# Altium integrated library Xilinx PLD XC9500XL.IntLib: 169 symbols (part 7 of 11)
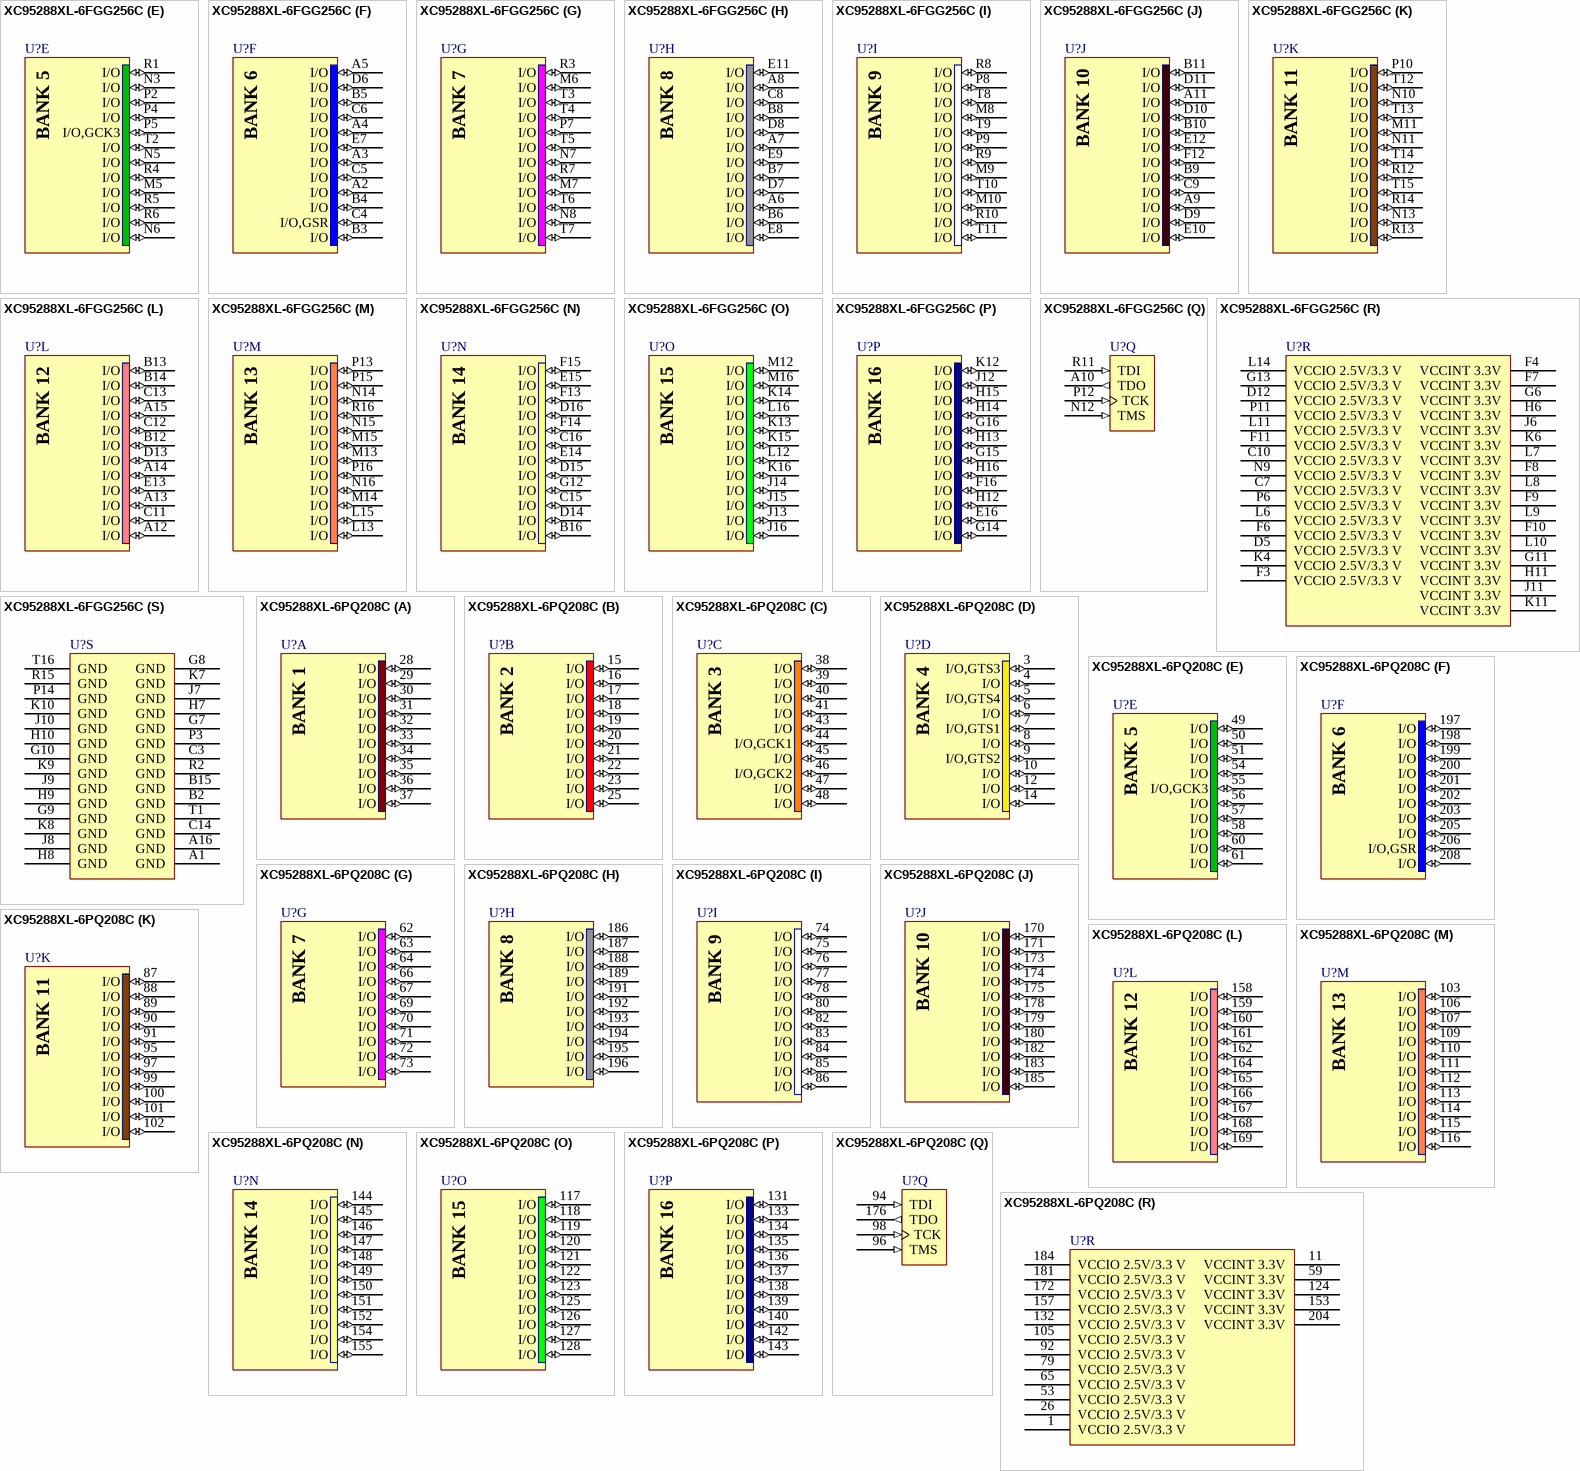
[diagram p64: symbols XC95288XL-6FGG256C to XC95288XL-6PQ208C]

## XC95288XL-6FGG256C
designator U?
FastFLASH XC900XL, 3.3V High-Performance 288 Macrocell CPLD, 192 User I/Os, 256-Ball FBGA, Speed Grade 6, Commercial Grade, Pb-Free; DatasheetVersion: ver2.1, Apr-2007; PackageVersion: ver1.2.1, Apr-2005; PackageReference: FGG256; PackageDescription: 256-Ball Fine Pitch Ball Grid Array (FGG256) - Pb-Free; Code_JEDEC: MO-151-AAF-1; Code_IPC: BGA100P16X16-256; ComponentLink1Description: Manufacturer URL; ComponentLink1URL: http://www.xilinx.com/; ComponentLink2Description: XC95288XL Datasheet; ComponentLink2URL: http://www.xilinx.com/support/documentation/data_sheets/ds055.pdf; ComponentLink3Description: FGG256 Package Drawing; ComponentLink3URL: http://www.xilinx.com/support/documentation/package_specs/fg256.pdf; ComponentLink4Description: XC9500XL Documents; ComponentLink4URL: http://www.xilinx.com/support/documentation/xc9500xl.htm
footprint FGG256 (BGA, 256-Leads, Body 17x17mm, Pitch 1mm)
part A pins: H1 I/O (io), H5 I/O (io), J1 I/O (io), J2 I/O (io), J3 I/O (io), J4 I/O (io), J5 I/O (io), K1 I/O (io), K2 I/O (io), K3 I/O (io), K5 I/O (io), L1 I/O (io)
part B pins: D1 I/O (io), E1 I/O (io), F1 I/O (io), F5 I/O (io), G1 I/O (io), G2 I/O (io), G3 I/O (io), G4 I/O (io), G5 I/O (io), H2 I/O (io), H3 I/O (io), H4 I/O (io)
part C pins: L2 I/O (io), L3 I/O (io), L4 I/O (io), L5 I/O (io), M1 I/O (io), M2 I/O,GCK1 (io), M3 I/O,GCK2 (io), M4 I/O (io), N1 I/O (io), N2 I/O (io), N4 I/O (io), P1 I/O (io)
part D pins: B1 I/O (io), C1 I/O (io), C2 I/O (io), D2 I/O (io), D3 I/O,GTS3 (io), D4 I/O,GTS1 (io), E2 I/O (io), E3 I/O,GTS4 (io), E4 I/O (io), E5 I/O,GTS2 (io), E6 I/O (io), F2 I/O (io)
part E pins: M5 I/O (io), N3 I/O (io), N5 I/O (io), N6 I/O (io), P2 I/O (io), P4 I/O (io), P5 I/O,GCK3 (io), R1 I/O (io), R4 I/O (io), R5 I/O (io), R6 I/O (io), T2 I/O (io)
part F pins: A2 I/O (io), A3 I/O (io), A4 I/O (io), A5 I/O (io), B3 I/O (io), B4 I/O (io), B5 I/O (io), C4 I/O,GSR (io), C5 I/O (io), C6 I/O (io), D6 I/O (io), E7 I/O (io)
part G pins: M6 I/O (io), M7 I/O (io), N7 I/O (io), N8 I/O (io), P7 I/O (io), R3 I/O (io), R7 I/O (io), T3 I/O (io), T4 I/O (io), T5 I/O (io), T6 I/O (io), T7 I/O (io)
part H pins: A6 I/O (io), A7 I/O (io), A8 I/O (io), B6 I/O (io), B7 I/O (io), B8 I/O (io), C8 I/O (io), D7 I/O (io), D8 I/O (io), E8 I/O (io), E9 I/O (io), E11 I/O (io)
part I pins: M8 I/O (io), M9 I/O (io), M10 I/O (io), P8 I/O (io), P9 I/O (io), R8 I/O (io), R9 I/O (io), R10 I/O (io), T8 I/O (io), T9 I/O (io), T10 I/O (io), T11 I/O (io)
part J pins: A9 I/O (io), A11 I/O (io), B9 I/O (io), B10 I/O (io), B11 I/O (io), C9 I/O (io), D9 I/O (io), D10 I/O (io), D11 I/O (io), E10 I/O (io), E12 I/O (io), F12 I/O (io)
part K pins: M11 I/O (io), N10 I/O (io), N11 I/O (io), N13 I/O (io), P10 I/O (io), R12 I/O (io), R13 I/O (io), R14 I/O (io), T12 I/O (io), T13 I/O (io), T14 I/O (io), T15 I/O (io)
part L pins: A12 I/O (io), A13 I/O (io), A14 I/O (io), A15 I/O (io), B12 I/O (io), B13 I/O (io), B14 I/O (io), C11 I/O (io), C12 I/O (io), C13 I/O (io), D13 I/O (io), E13 I/O (io)
part M pins: L13 I/O (io), L15 I/O (io), M13 I/O (io), M14 I/O (io), M15 I/O (io), N14 I/O (io), N15 I/O (io), N16 I/O (io), P13 I/O (io), P15 I/O (io), P16 I/O (io), R16 I/O (io)
part N pins: B16 I/O (io), C15 I/O (io), C16 I/O (io), D14 I/O (io), D15 I/O (io), D16 I/O (io), E14 I/O (io), E15 I/O (io), F13 I/O (io), F14 I/O (io), F15 I/O (io), G12 I/O (io)
part O pins: J13 I/O (io), J14 I/O (io), J15 I/O (io), J16 I/O (io), K13 I/O (io), K14 I/O (io), K15 I/O (io), K16 I/O (io), L12 I/O (io), L16 I/O (io), M12 I/O (io), M16 I/O (io)
part P pins: E16 I/O (io), F16 I/O (io), G14 I/O (io), G15 I/O (io), G16 I/O (io), H12 I/O (io), H13 I/O (io), H14 I/O (io), H15 I/O (io), H16 I/O (io), J12 I/O (io), K12 I/O (io)
part Q pins: A10 TDO (out), N12 TMS (in), P12 TCK (in), R11 TDI (in)
part R pins: C7 VCCIO 2.5V/3.3 V (power), C10 VCCIO 2.5V/3.3 V (power), D5 VCCIO 2.5V/3.3 V (power), D12 VCCIO 2.5V/3.3 V (power), F3 VCCIO 2.5V/3.3 V (power), F4 VCCINT 3.3V (power), F6 VCCIO 2.5V/3.3 V (power), F7 VCCINT 3.3V (power), F8 VCCINT 3.3V (power), F9 VCCINT 3.3V (power), F10 VCCINT 3.3V (power), F11 VCCIO 2.5V/3.3 V (power), G6 VCCINT 3.3V (power), G11 VCCINT 3.3V (power), G13 VCCIO 2.5V/3.3 V (power), H6 VCCINT 3.3V (power), H11 VCCINT 3.3V (power), J6 VCCINT 3.3V (power), J11 VCCINT 3.3V (power), K4 VCCIO 2.5V/3.3 V (power), K6 VCCINT 3.3V (power), K11 VCCINT 3.3V (power), L6 VCCIO 2.5V/3.3 V (power), L7 VCCINT 3.3V (power), L8 VCCINT 3.3V (power), L9 VCCINT 3.3V (power), L10 VCCINT 3.3V (power), L11 VCCIO 2.5V/3.3 V (power), L14 VCCIO 2.5V/3.3 V (power), N9 VCCIO 2.5V/3.3 V (power), P6 VCCIO 2.5V/3.3 V (power), P11 VCCIO 2.5V/3.3 V (power)
part S pins: A1 GND (power), A16 GND (power), B2 GND (power), B15 GND (power), C3 GND (power), C14 GND (power), G7 GND (power), G8 GND (power), G9 GND (power), G10 GND (power), H7 GND (power), H8 GND (power), H9 GND (power), H10 GND (power), J7 GND (power), J8 GND (power), J9 GND (power), J10 GND (power), K7 GND (power), K8 GND (power), K9 GND (power), K10 GND (power), P3 GND (power), P14 GND (power), R2 GND (power), R15 GND (power), T1 GND (power), T16 GND (power)
part A text: BANK 1
part B text: BANK 2
part C text: BANK 3
part D text: BANK 4
part E text: BANK 5
part F text: BANK 6
part G text: BANK 7
part H text: BANK 8
part I text: BANK 9
part J text: BANK 10
part K text: BANK 11
part L text: BANK 12
part M text: BANK 13
part N text: BANK 14
part O text: BANK 15
part P text: BANK 16

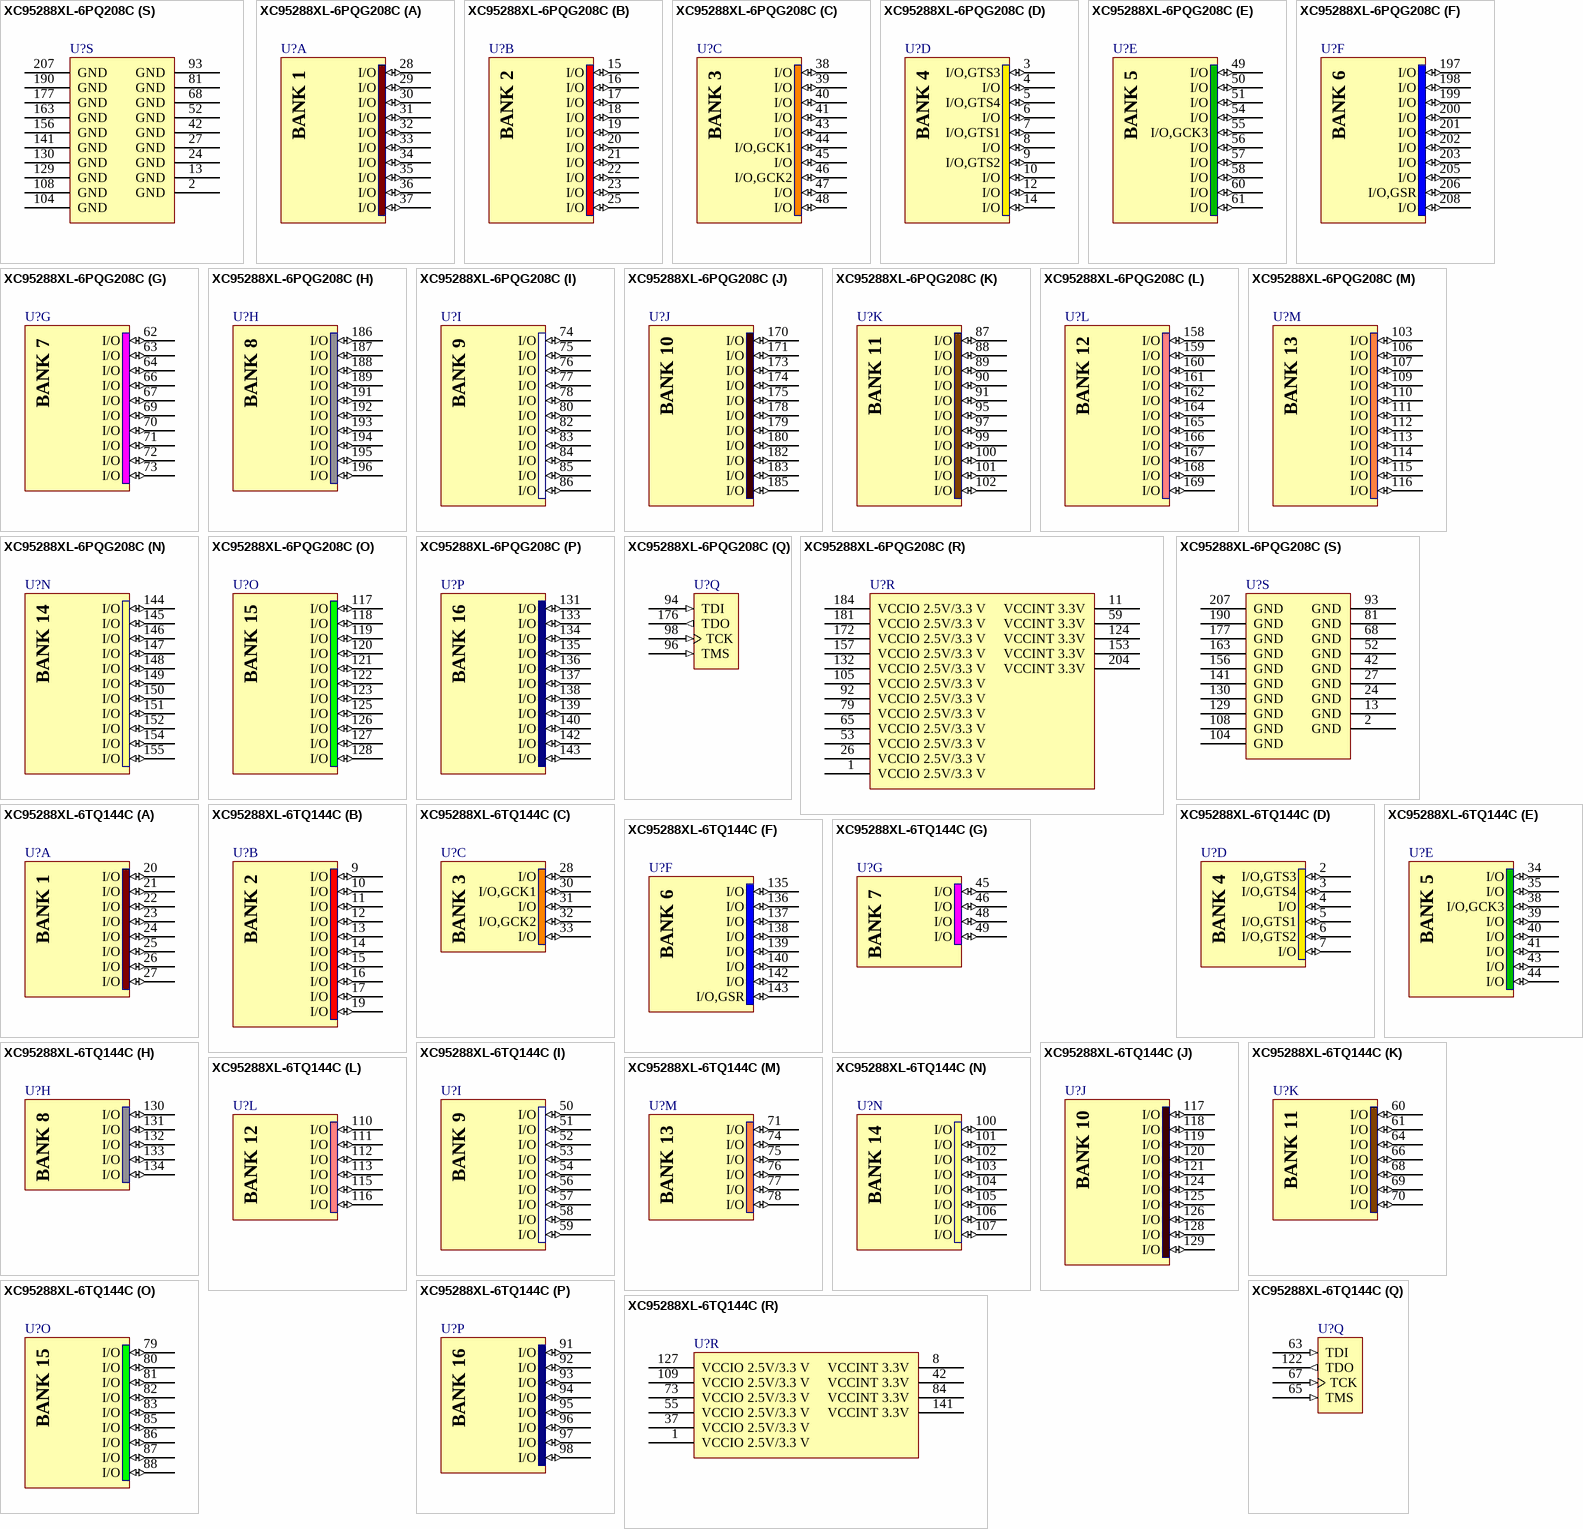
[diagram p34: symbols XC95288XL-6PQ208C to XC95288XL-6TQ144C]

## XC95288XL-6PQ208C
designator U?
FastFLASH XC900XL, 3.3V High-Performance 288 Macrocell CPLD, 168 User I/Os, 208-Pin PQFP, Speed Grade 6, Commercial Grade; DatasheetVersion: ver2.1, Apr-2007; PackageVersion: ver1.2, Jun-2004; PackageReference: PQ208; PackageDescription: 208-Pin Plastic Quad Flat Pack (PQ208); Code_JEDEC: MS-029-FA-1; ComponentLink1Description: Manufacturer URL; ComponentLink1URL: http://www.xilinx.com/; ComponentLink2Description: XC95288XL Datasheet; ComponentLink2URL: http://www.xilinx.com/support/documentation/data_sheets/ds055.pdf; ComponentLink3Description: PQ208 Package Drawing; ComponentLink3URL: http://www.xilinx.com/support/documentation/package_specs/pq208.pdf; ComponentLink4Description: XC9500XL Documents; ComponentLink4URL: http://www.xilinx.com/support/documentation/xc9500xl.htm
footprint PQ208_N (Shrink QFP, 208-Leads, Body 28x28mm, Pitch 0.5mm, IPC Medium Density)
footprint PQ208_L (Shrink QFP, 208-Leads, Body 28x28mm, Pitch 0.5mm, IPC High Density)
footprint PQ208_M (Shrink QFP, 208-Leads, Body 28x28mm, Pitch 0.5mm, IPC Low Density)
part A pins: 28 I/O (io), 29 I/O (io), 30 I/O (io), 31 I/O (io), 32 I/O (io), 33 I/O (io), 34 I/O (io), 35 I/O (io), 36 I/O (io), 37 I/O (io)
part B pins: 15 I/O (io), 16 I/O (io), 17 I/O (io), 18 I/O (io), 19 I/O (io), 20 I/O (io), 21 I/O (io), 22 I/O (io), 23 I/O (io), 25 I/O (io)
part C pins: 38 I/O (io), 39 I/O (io), 40 I/O (io), 41 I/O (io), 43 I/O (io), 44 I/O,GCK1 (io), 45 I/O (io), 46 I/O,GCK2 (io), 47 I/O (io), 48 I/O (io)
part D pins: 3 I/O,GTS3 (io), 4 I/O (io), 5 I/O,GTS4 (io), 6 I/O (io), 7 I/O,GTS1 (io), 8 I/O (io), 9 I/O,GTS2 (io), 10 I/O (io), 12 I/O (io), 14 I/O (io)
part E pins: 49 I/O (io), 50 I/O (io), 51 I/O (io), 54 I/O (io), 55 I/O,GCK3 (io), 56 I/O (io), 57 I/O (io), 58 I/O (io), 60 I/O (io), 61 I/O (io)
part F pins: 197 I/O (io), 198 I/O (io), 199 I/O (io), 200 I/O (io), 201 I/O (io), 202 I/O (io), 203 I/O (io), 205 I/O (io), 206 I/O,GSR (io), 208 I/O (io)
part G pins: 62 I/O (io), 63 I/O (io), 64 I/O (io), 66 I/O (io), 67 I/O (io), 69 I/O (io), 70 I/O (io), 71 I/O (io), 72 I/O (io), 73 I/O (io)
part H pins: 186 I/O (io), 187 I/O (io), 188 I/O (io), 189 I/O (io), 191 I/O (io), 192 I/O (io), 193 I/O (io), 194 I/O (io), 195 I/O (io), 196 I/O (io)
part I pins: 74 I/O (io), 75 I/O (io), 76 I/O (io), 77 I/O (io), 78 I/O (io), 80 I/O (io), 82 I/O (io), 83 I/O (io), 84 I/O (io), 85 I/O (io), 86 I/O (io)
part J pins: 170 I/O (io), 171 I/O (io), 173 I/O (io), 174 I/O (io), 175 I/O (io), 178 I/O (io), 179 I/O (io), 180 I/O (io), 182 I/O (io), 183 I/O (io), 185 I/O (io)
part K pins: 87 I/O (io), 88 I/O (io), 89 I/O (io), 90 I/O (io), 91 I/O (io), 95 I/O (io), 97 I/O (io), 99 I/O (io), 100 I/O (io), 101 I/O (io), 102 I/O (io)
part L pins: 158 I/O (io), 159 I/O (io), 160 I/O (io), 161 I/O (io), 162 I/O (io), 164 I/O (io), 165 I/O (io), 166 I/O (io), 167 I/O (io), 168 I/O (io), 169 I/O (io)
part M pins: 103 I/O (io), 106 I/O (io), 107 I/O (io), 109 I/O (io), 110 I/O (io), 111 I/O (io), 112 I/O (io), 113 I/O (io), 114 I/O (io), 115 I/O (io), 116 I/O (io)
part N pins: 144 I/O (io), 145 I/O (io), 146 I/O (io), 147 I/O (io), 148 I/O (io), 149 I/O (io), 150 I/O (io), 151 I/O (io), 152 I/O (io), 154 I/O (io), 155 I/O (io)
part O pins: 117 I/O (io), 118 I/O (io), 119 I/O (io), 120 I/O (io), 121 I/O (io), 122 I/O (io), 123 I/O (io), 125 I/O (io), 126 I/O (io), 127 I/O (io), 128 I/O (io)
part P pins: 131 I/O (io), 133 I/O (io), 134 I/O (io), 135 I/O (io), 136 I/O (io), 137 I/O (io), 138 I/O (io), 139 I/O (io), 140 I/O (io), 142 I/O (io), 143 I/O (io)
part Q pins: 94 TDI (in), 96 TMS (in), 98 TCK (in), 176 TDO (out)
part R pins: 1 VCCIO 2.5V/3.3 V (power), 11 VCCINT 3.3V (power), 26 VCCIO 2.5V/3.3 V (power), 53 VCCIO 2.5V/3.3 V (power), 59 VCCINT 3.3V (power), 65 VCCIO 2.5V/3.3 V (power), 79 VCCIO 2.5V/3.3 V (power), 92 VCCIO 2.5V/3.3 V (power), 105 VCCIO 2.5V/3.3 V (power), 124 VCCINT 3.3V (power), 132 VCCIO 2.5V/3.3 V (power), 153 VCCINT 3.3V (power), 157 VCCIO 2.5V/3.3 V (power), 172 VCCIO 2.5V/3.3 V (power), 181 VCCIO 2.5V/3.3 V (power), 184 VCCIO 2.5V/3.3 V (power), 204 VCCINT 3.3V (power)
part S pins: 2 GND (power), 13 GND (power), 24 GND (power), 27 GND (power), 42 GND (power), 52 GND (power), 68 GND (power), 81 GND (power), 93 GND (power), 104 GND (power), 108 GND (power), 129 GND (power), 130 GND (power), 141 GND (power), 156 GND (power), 163 GND (power), 177 GND (power), 190 GND (power), 207 GND (power)
part A text: BANK 1
part B text: BANK 2
part C text: BANK 3
part D text: BANK 4
part E text: BANK 5
part F text: BANK 6
part G text: BANK 7
part H text: BANK 8
part I text: BANK 9
part J text: BANK 10
part K text: BANK 11
part L text: BANK 12
part M text: BANK 13
part N text: BANK 14
part O text: BANK 15
part P text: BANK 16

## XC95288XL-6PQG208C
designator U?
FastFLASH XC900XL, 3.3V High-Performance 288 Macrocell CPLD, 168 User I/Os, 208-Pin PQFP, Speed Grade 6, Commercial Grade, Pb-Free; DatasheetVersion: ver2.1, Apr-2007; PackageVersion: ver1.2, Jun-2004; PackageReference: PQG208; PackageDescription: 208-Pin Plastic Quad Flat Pack (PQG208) - Pb-Free; Code_JEDEC: MS-029-FA-1; ComponentLink1Description: Manufacturer URL; ComponentLink1URL: http://www.xilinx.com/; ComponentLink2Description: XC95288XL Datasheet; ComponentLink2URL: http://www.xilinx.com/support/documentation/data_sheets/ds055.pdf; ComponentLink3Description: PQG208 Package Drawing; ComponentLink3URL: http://www.xilinx.com/support/documentation/package_specs/pq208.pdf; ComponentLink4Description: XC9500XL Documents; ComponentLink4URL: http://www.xilinx.com/support/documentation/xc9500xl.htm
footprint PQG208_N (Shrink QFP, 208-Leads, Body 28x28mm, Pitch 0.5mm, IPC Medium Density)
footprint PQG208_L (Shrink QFP, 208-Leads, Body 28x28mm, Pitch 0.5mm, IPC High Density)
footprint PQG208_M (Shrink QFP, 208-Leads, Body 28x28mm, Pitch 0.5mm, IPC Low Density)
part A pins: 28 I/O (io), 29 I/O (io), 30 I/O (io), 31 I/O (io), 32 I/O (io), 33 I/O (io), 34 I/O (io), 35 I/O (io), 36 I/O (io), 37 I/O (io)
part B pins: 15 I/O (io), 16 I/O (io), 17 I/O (io), 18 I/O (io), 19 I/O (io), 20 I/O (io), 21 I/O (io), 22 I/O (io), 23 I/O (io), 25 I/O (io)
part C pins: 38 I/O (io), 39 I/O (io), 40 I/O (io), 41 I/O (io), 43 I/O (io), 44 I/O,GCK1 (io), 45 I/O (io), 46 I/O,GCK2 (io), 47 I/O (io), 48 I/O (io)
part D pins: 3 I/O,GTS3 (io), 4 I/O (io), 5 I/O,GTS4 (io), 6 I/O (io), 7 I/O,GTS1 (io), 8 I/O (io), 9 I/O,GTS2 (io), 10 I/O (io), 12 I/O (io), 14 I/O (io)
part E pins: 49 I/O (io), 50 I/O (io), 51 I/O (io), 54 I/O (io), 55 I/O,GCK3 (io), 56 I/O (io), 57 I/O (io), 58 I/O (io), 60 I/O (io), 61 I/O (io)
part F pins: 197 I/O (io), 198 I/O (io), 199 I/O (io), 200 I/O (io), 201 I/O (io), 202 I/O (io), 203 I/O (io), 205 I/O (io), 206 I/O,GSR (io), 208 I/O (io)
part G pins: 62 I/O (io), 63 I/O (io), 64 I/O (io), 66 I/O (io), 67 I/O (io), 69 I/O (io), 70 I/O (io), 71 I/O (io), 72 I/O (io), 73 I/O (io)
part H pins: 186 I/O (io), 187 I/O (io), 188 I/O (io), 189 I/O (io), 191 I/O (io), 192 I/O (io), 193 I/O (io), 194 I/O (io), 195 I/O (io), 196 I/O (io)
part I pins: 74 I/O (io), 75 I/O (io), 76 I/O (io), 77 I/O (io), 78 I/O (io), 80 I/O (io), 82 I/O (io), 83 I/O (io), 84 I/O (io), 85 I/O (io), 86 I/O (io)
part J pins: 170 I/O (io), 171 I/O (io), 173 I/O (io), 174 I/O (io), 175 I/O (io), 178 I/O (io), 179 I/O (io), 180 I/O (io), 182 I/O (io), 183 I/O (io), 185 I/O (io)
part K pins: 87 I/O (io), 88 I/O (io), 89 I/O (io), 90 I/O (io), 91 I/O (io), 95 I/O (io), 97 I/O (io), 99 I/O (io), 100 I/O (io), 101 I/O (io), 102 I/O (io)
part L pins: 158 I/O (io), 159 I/O (io), 160 I/O (io), 161 I/O (io), 162 I/O (io), 164 I/O (io), 165 I/O (io), 166 I/O (io), 167 I/O (io), 168 I/O (io), 169 I/O (io)
part M pins: 103 I/O (io), 106 I/O (io), 107 I/O (io), 109 I/O (io), 110 I/O (io), 111 I/O (io), 112 I/O (io), 113 I/O (io), 114 I/O (io), 115 I/O (io), 116 I/O (io)
part N pins: 144 I/O (io), 145 I/O (io), 146 I/O (io), 147 I/O (io), 148 I/O (io), 149 I/O (io), 150 I/O (io), 151 I/O (io), 152 I/O (io), 154 I/O (io), 155 I/O (io)
part O pins: 117 I/O (io), 118 I/O (io), 119 I/O (io), 120 I/O (io), 121 I/O (io), 122 I/O (io), 123 I/O (io), 125 I/O (io), 126 I/O (io), 127 I/O (io), 128 I/O (io)
part P pins: 131 I/O (io), 133 I/O (io), 134 I/O (io), 135 I/O (io), 136 I/O (io), 137 I/O (io), 138 I/O (io), 139 I/O (io), 140 I/O (io), 142 I/O (io), 143 I/O (io)
part Q pins: 94 TDI (in), 96 TMS (in), 98 TCK (in), 176 TDO (out)
part R pins: 1 VCCIO 2.5V/3.3 V (power), 11 VCCINT 3.3V (power), 26 VCCIO 2.5V/3.3 V (power), 53 VCCIO 2.5V/3.3 V (power), 59 VCCINT 3.3V (power), 65 VCCIO 2.5V/3.3 V (power), 79 VCCIO 2.5V/3.3 V (power), 92 VCCIO 2.5V/3.3 V (power), 105 VCCIO 2.5V/3.3 V (power), 124 VCCINT 3.3V (power), 132 VCCIO 2.5V/3.3 V (power), 153 VCCINT 3.3V (power), 157 VCCIO 2.5V/3.3 V (power), 172 VCCIO 2.5V/3.3 V (power), 181 VCCIO 2.5V/3.3 V (power), 184 VCCIO 2.5V/3.3 V (power), 204 VCCINT 3.3V (power)
part S pins: 2 GND (power), 13 GND (power), 24 GND (power), 27 GND (power), 42 GND (power), 52 GND (power), 68 GND (power), 81 GND (power), 93 GND (power), 104 GND (power), 108 GND (power), 129 GND (power), 130 GND (power), 141 GND (power), 156 GND (power), 163 GND (power), 177 GND (power), 190 GND (power), 207 GND (power)
part A text: BANK 1
part B text: BANK 2
part C text: BANK 3
part D text: BANK 4
part E text: BANK 5
part F text: BANK 6
part G text: BANK 7
part H text: BANK 8
part I text: BANK 9
part J text: BANK 10
part K text: BANK 11
part L text: BANK 12
part M text: BANK 13
part N text: BANK 14
part O text: BANK 15
part P text: BANK 16

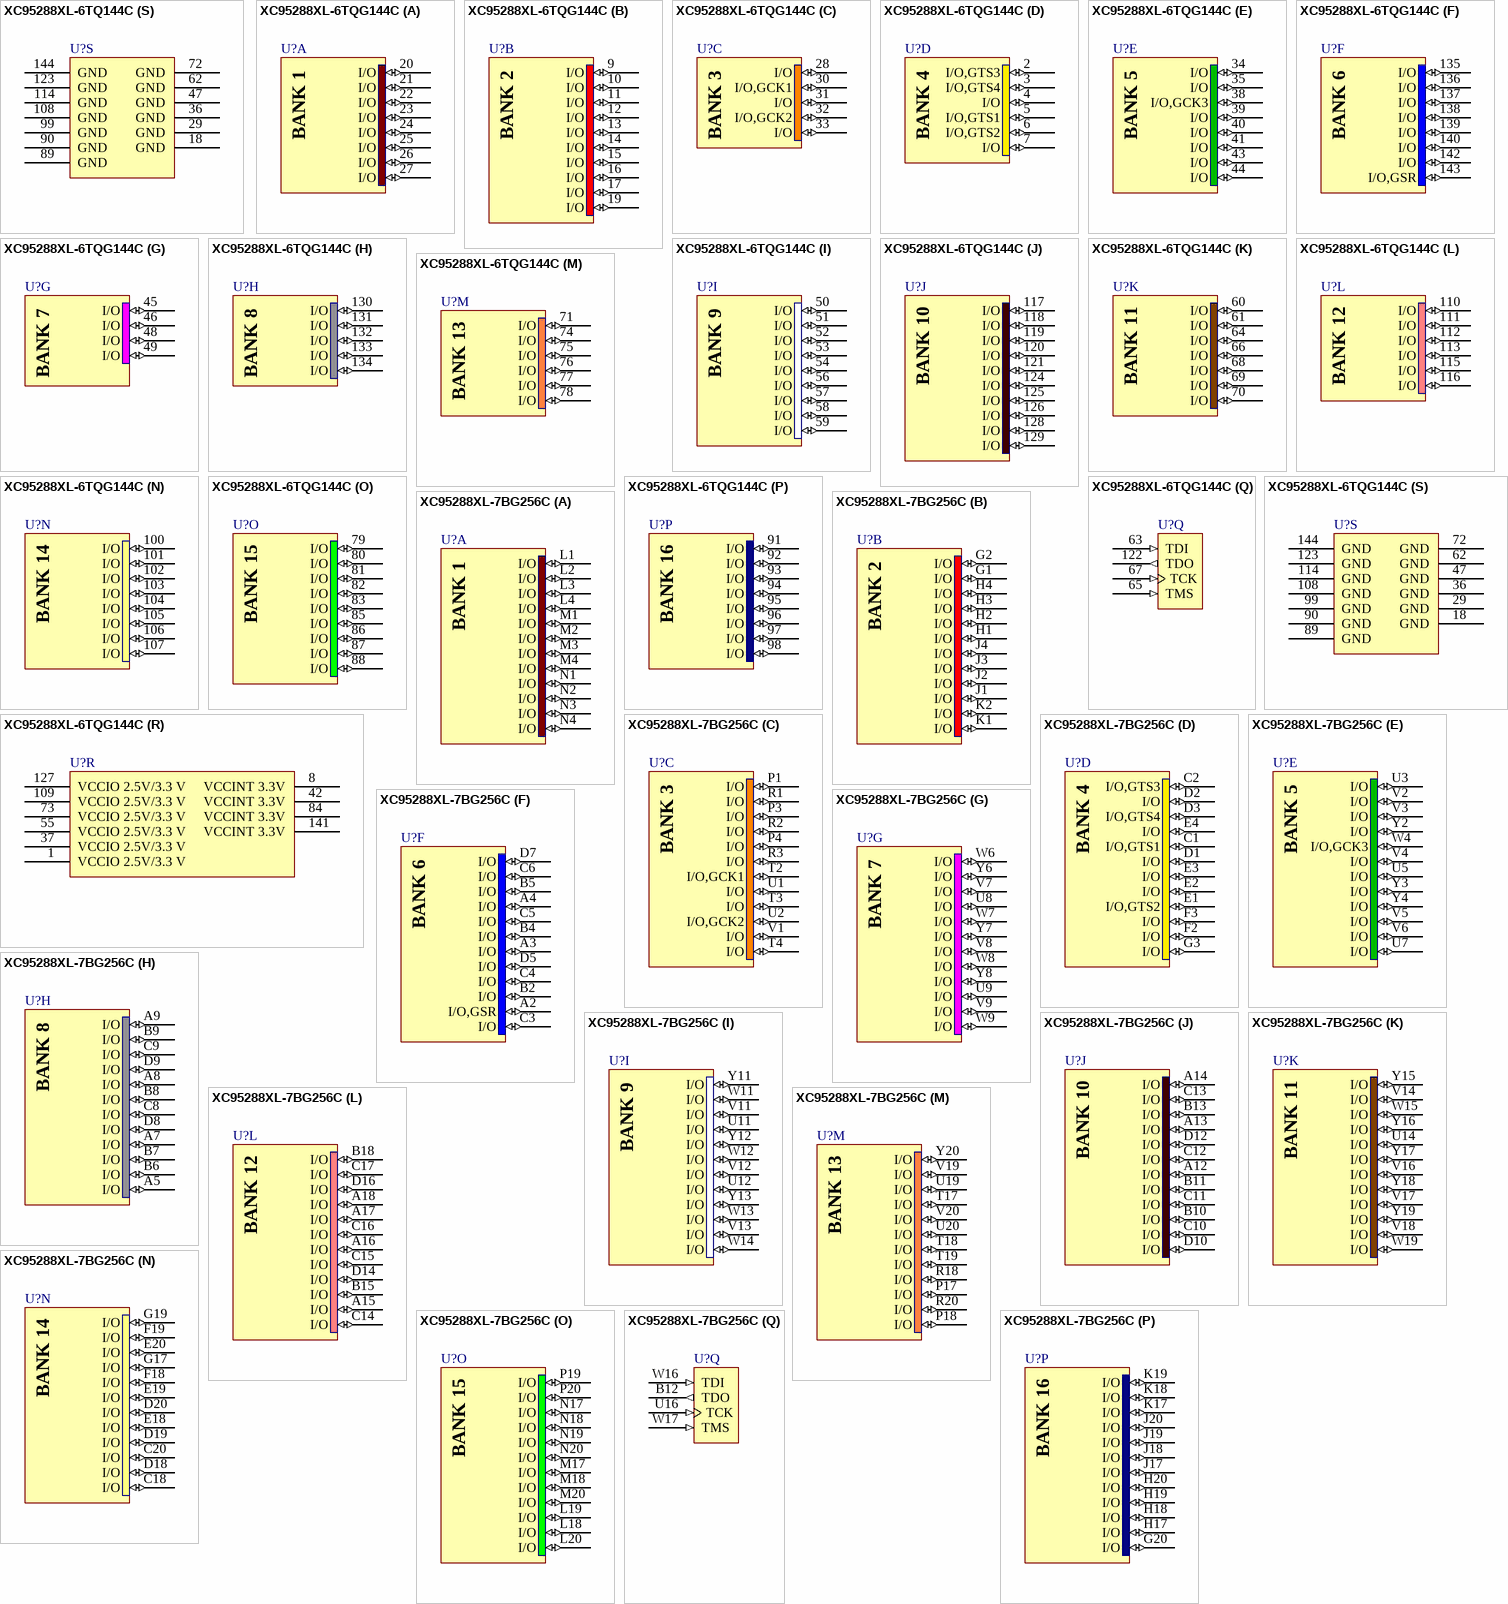
[diagram p35: symbols XC95288XL-6TQ144C to XC95288XL-7BG256C]

## XC95288XL-6TQ144C
designator U?
FastFLASH XC900XL, 3.3V High-Performance 288 Macrocell CPLD, 117 User I/Os, 144-Pin TQFP, Speed Grade 6, Commercial Grade; DatasheetVersion: ver2.1, Apr-2007; PackageVersion: ver1.2, Jun-2004; PackageReference: TQ144; PackageDescription: 144-Pin Thin Quad Flat Pack (TQ144); Code_JEDEC: MS-026-BFB; ComponentLink1Description: Manufacturer URL; ComponentLink1URL: http://www.xilinx.com/; ComponentLink2Description: XC95288XL Datasheet; ComponentLink2URL: http://www.xilinx.com/support/documentation/data_sheets/ds055.pdf; ComponentLink3Description: TQ144 Package Drawing; ComponentLink3URL: http://www.xilinx.com/support/documentation/package_specs/tq144.pdf; ComponentLink4Description: XC9500XL Documents; ComponentLink4URL: http://www.xilinx.com/support/documentation/xc9500xl.htm
footprint TQ144_N (Thin QFP, 144-Leads, Body 20x20mm, Pitch 0.5mm, IPC Medium Density)
footprint TQ144_L (Thin QFP, 144-Leads, Body 20x20mm, Pitch 0.5mm, IPC High Density)
footprint TQ144_M (Thin QFP, 144-Leads, Body 20x20mm, Pitch 0.5mm, IPC Low Density)
part A pins: 20 I/O (io), 21 I/O (io), 22 I/O (io), 23 I/O (io), 24 I/O (io), 25 I/O (io), 26 I/O (io), 27 I/O (io)
part B pins: 9 I/O (io), 10 I/O (io), 11 I/O (io), 12 I/O (io), 13 I/O (io), 14 I/O (io), 15 I/O (io), 16 I/O (io), 17 I/O (io), 19 I/O (io)
part C pins: 28 I/O (io), 30 I/O,GCK1 (io), 31 I/O (io), 32 I/O,GCK2 (io), 33 I/O (io)
part D pins: 2 I/O,GTS3 (io), 3 I/O,GTS4 (io), 4 I/O (io), 5 I/O,GTS1 (io), 6 I/O,GTS2 (io), 7 I/O (io)
part E pins: 34 I/O (io), 35 I/O (io), 38 I/O,GCK3 (io), 39 I/O (io), 40 I/O (io), 41 I/O (io), 43 I/O (io), 44 I/O (io)
part F pins: 135 I/O (io), 136 I/O (io), 137 I/O (io), 138 I/O (io), 139 I/O (io), 140 I/O (io), 142 I/O (io), 143 I/O,GSR (io)
part G pins: 45 I/O (io), 46 I/O (io), 48 I/O (io), 49 I/O (io)
part H pins: 130 I/O (io), 131 I/O (io), 132 I/O (io), 133 I/O (io), 134 I/O (io)
part I pins: 50 I/O (io), 51 I/O (io), 52 I/O (io), 53 I/O (io), 54 I/O (io), 56 I/O (io), 57 I/O (io), 58 I/O (io), 59 I/O (io)
part J pins: 117 I/O (io), 118 I/O (io), 119 I/O (io), 120 I/O (io), 121 I/O (io), 124 I/O (io), 125 I/O (io), 126 I/O (io), 128 I/O (io), 129 I/O (io)
part K pins: 60 I/O (io), 61 I/O (io), 64 I/O (io), 66 I/O (io), 68 I/O (io), 69 I/O (io), 70 I/O (io)
part L pins: 110 I/O (io), 111 I/O (io), 112 I/O (io), 113 I/O (io), 115 I/O (io), 116 I/O (io)
part M pins: 71 I/O (io), 74 I/O (io), 75 I/O (io), 76 I/O (io), 77 I/O (io), 78 I/O (io)
part N pins: 100 I/O (io), 101 I/O (io), 102 I/O (io), 103 I/O (io), 104 I/O (io), 105 I/O (io), 106 I/O (io), 107 I/O (io)
part O pins: 79 I/O (io), 80 I/O (io), 81 I/O (io), 82 I/O (io), 83 I/O (io), 85 I/O (io), 86 I/O (io), 87 I/O (io), 88 I/O (io)
part P pins: 91 I/O (io), 92 I/O (io), 93 I/O (io), 94 I/O (io), 95 I/O (io), 96 I/O (io), 97 I/O (io), 98 I/O (io)
part Q pins: 63 TDI (in), 65 TMS (in), 67 TCK (in), 122 TDO (out)
part R pins: 1 VCCIO 2.5V/3.3 V (power), 8 VCCINT 3.3V (power), 37 VCCIO 2.5V/3.3 V (power), 42 VCCINT 3.3V (power), 55 VCCIO 2.5V/3.3 V (power), 73 VCCIO 2.5V/3.3 V (power), 84 VCCINT 3.3V (power), 109 VCCIO 2.5V/3.3 V (power), 127 VCCIO 2.5V/3.3 V (power), 141 VCCINT 3.3V (power)
part S pins: 18 GND (power), 29 GND (power), 36 GND (power), 47 GND (power), 62 GND (power), 72 GND (power), 89 GND (power), 90 GND (power), 99 GND (power), 108 GND (power), 114 GND (power), 123 GND (power), 144 GND (power)
part A text: BANK 1
part B text: BANK 2
part C text: BANK 3
part D text: BANK 4
part E text: BANK 5
part F text: BANK 6
part G text: BANK 7
part H text: BANK 8
part I text: BANK 9
part J text: BANK 10
part K text: BANK 11
part L text: BANK 12
part M text: BANK 13
part N text: BANK 14
part O text: BANK 15
part P text: BANK 16

## XC95288XL-6TQG144C
designator U?
FastFLASH XC900XL, 3.3V High-Performance 288 Macrocell CPLD, 117 User I/Os, 144-Pin TQFP, Speed Grade 6, Commercial Grade, Pb-Free; DatasheetVersion: ver2.1, Apr-2007; PackageVersion: ver1.2, Jun-2004; PackageReference: TQG144; PackageDescription: 144-Pin Thin Quad Flat Pack (TQG144) - Pb-Free; Code_JEDEC: MS-026-BFB; ComponentLink1Description: Manufacturer URL; ComponentLink1URL: http://www.xilinx.com/; ComponentLink2Description: XC95288XL Datasheet; ComponentLink2URL: http://www.xilinx.com/support/documentation/data_sheets/ds055.pdf; ComponentLink3Description: TQG144 Package Drawing; ComponentLink3URL: http://www.xilinx.com/support/documentation/package_specs/tq144.pdf; ComponentLink4Description: XC9500XL Documents; ComponentLink4URL: http://www.xilinx.com/support/documentation/xc9500xl.htm
footprint TQG144_N (Thin QFP, 144-Leads, Body 20x20mm, Pitch 0.5mm, IPC Medium Density)
footprint TQG144_L (Thin QFP, 144-Leads, Body 20x20mm, Pitch 0.5mm, IPC High Density)
footprint TQG144_M (Thin QFP, 144-Leads, Body 20x20mm, Pitch 0.5mm, IPC Low Density)
part A pins: 20 I/O (io), 21 I/O (io), 22 I/O (io), 23 I/O (io), 24 I/O (io), 25 I/O (io), 26 I/O (io), 27 I/O (io)
part B pins: 9 I/O (io), 10 I/O (io), 11 I/O (io), 12 I/O (io), 13 I/O (io), 14 I/O (io), 15 I/O (io), 16 I/O (io), 17 I/O (io), 19 I/O (io)
part C pins: 28 I/O (io), 30 I/O,GCK1 (io), 31 I/O (io), 32 I/O,GCK2 (io), 33 I/O (io)
part D pins: 2 I/O,GTS3 (io), 3 I/O,GTS4 (io), 4 I/O (io), 5 I/O,GTS1 (io), 6 I/O,GTS2 (io), 7 I/O (io)
part E pins: 34 I/O (io), 35 I/O (io), 38 I/O,GCK3 (io), 39 I/O (io), 40 I/O (io), 41 I/O (io), 43 I/O (io), 44 I/O (io)
part F pins: 135 I/O (io), 136 I/O (io), 137 I/O (io), 138 I/O (io), 139 I/O (io), 140 I/O (io), 142 I/O (io), 143 I/O,GSR (io)
part G pins: 45 I/O (io), 46 I/O (io), 48 I/O (io), 49 I/O (io)
part H pins: 130 I/O (io), 131 I/O (io), 132 I/O (io), 133 I/O (io), 134 I/O (io)
part I pins: 50 I/O (io), 51 I/O (io), 52 I/O (io), 53 I/O (io), 54 I/O (io), 56 I/O (io), 57 I/O (io), 58 I/O (io), 59 I/O (io)
part J pins: 117 I/O (io), 118 I/O (io), 119 I/O (io), 120 I/O (io), 121 I/O (io), 124 I/O (io), 125 I/O (io), 126 I/O (io), 128 I/O (io), 129 I/O (io)
part K pins: 60 I/O (io), 61 I/O (io), 64 I/O (io), 66 I/O (io), 68 I/O (io), 69 I/O (io), 70 I/O (io)
part L pins: 110 I/O (io), 111 I/O (io), 112 I/O (io), 113 I/O (io), 115 I/O (io), 116 I/O (io)
part M pins: 71 I/O (io), 74 I/O (io), 75 I/O (io), 76 I/O (io), 77 I/O (io), 78 I/O (io)
part N pins: 100 I/O (io), 101 I/O (io), 102 I/O (io), 103 I/O (io), 104 I/O (io), 105 I/O (io), 106 I/O (io), 107 I/O (io)
part O pins: 79 I/O (io), 80 I/O (io), 81 I/O (io), 82 I/O (io), 83 I/O (io), 85 I/O (io), 86 I/O (io), 87 I/O (io), 88 I/O (io)
part P pins: 91 I/O (io), 92 I/O (io), 93 I/O (io), 94 I/O (io), 95 I/O (io), 96 I/O (io), 97 I/O (io), 98 I/O (io)
part Q pins: 63 TDI (in), 65 TMS (in), 67 TCK (in), 122 TDO (out)
part R pins: 1 VCCIO 2.5V/3.3 V (power), 8 VCCINT 3.3V (power), 37 VCCIO 2.5V/3.3 V (power), 42 VCCINT 3.3V (power), 55 VCCIO 2.5V/3.3 V (power), 73 VCCIO 2.5V/3.3 V (power), 84 VCCINT 3.3V (power), 109 VCCIO 2.5V/3.3 V (power), 127 VCCIO 2.5V/3.3 V (power), 141 VCCINT 3.3V (power)
part S pins: 18 GND (power), 29 GND (power), 36 GND (power), 47 GND (power), 62 GND (power), 72 GND (power), 89 GND (power), 90 GND (power), 99 GND (power), 108 GND (power), 114 GND (power), 123 GND (power), 144 GND (power)
part A text: BANK 1
part B text: BANK 2
part C text: BANK 3
part D text: BANK 4
part E text: BANK 5
part F text: BANK 6
part G text: BANK 7
part H text: BANK 8
part I text: BANK 9
part J text: BANK 10
part K text: BANK 11
part L text: BANK 12
part M text: BANK 13
part N text: BANK 14
part O text: BANK 15
part P text: BANK 16

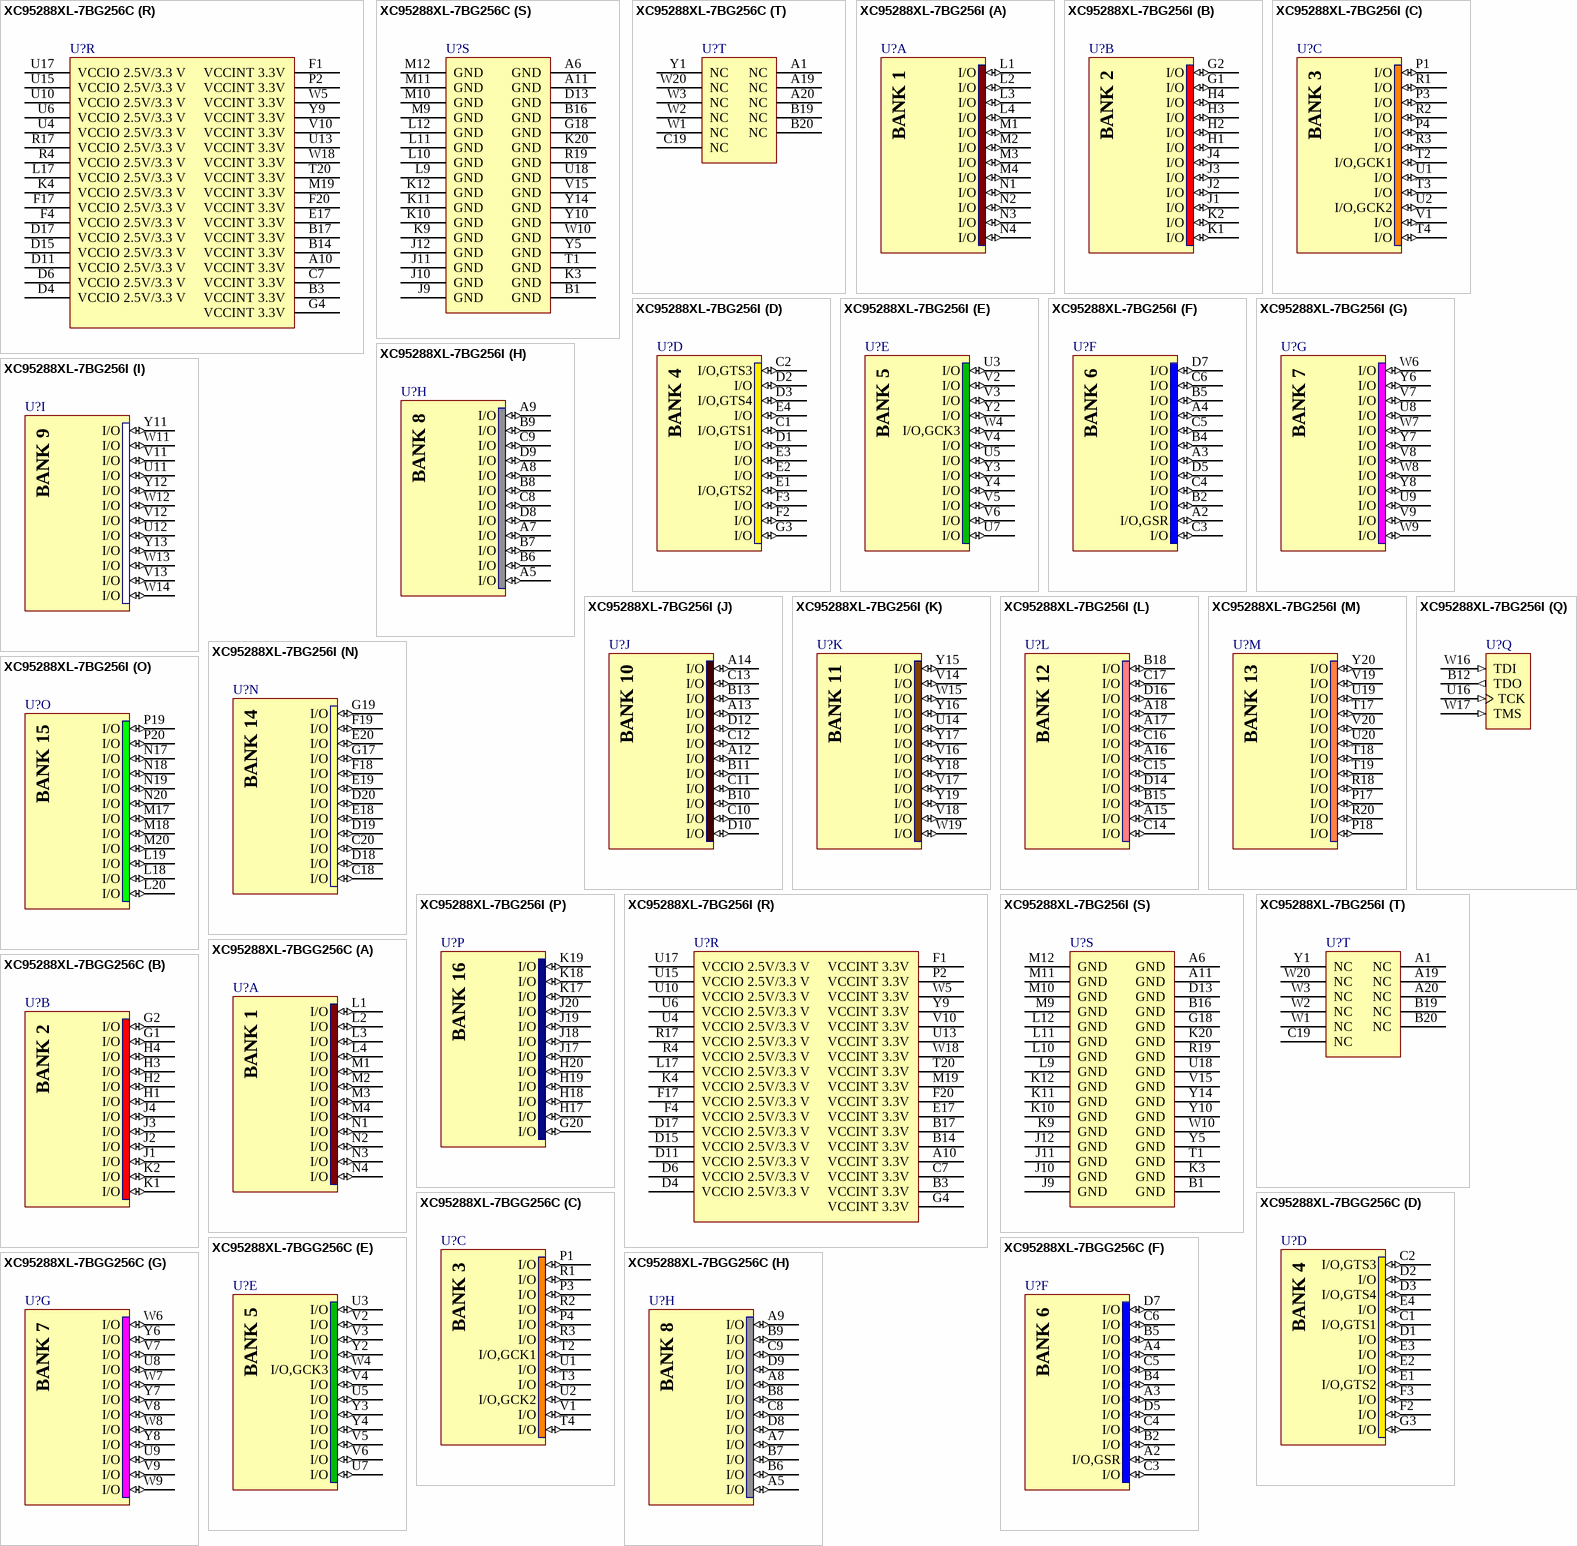
[diagram p36: symbols XC95288XL-7BG256C to XC95288XL-7BGG256C]

## XC95288XL-7BG256C
designator U?
FastFLASH XC900XL, 3.3V High-Performance 288 Macrocell CPLD, 192 User I/Os, 256-Ball BGA, Speed Grade 7, Commercial Grade; Note: BGA package contains 16 extra balls (Grounded); DatasheetVersion: ver2.1, Apr-2007; PackageVersion: ver1.2, Apr-2006; PackageReference: BG256TE; PackageDescription: 256-Ball Plastic Ball Grid Array (BG256) - Thermally Enhanced; Code_JEDEC: MS-034-BAL-2; ComponentLink1Description: Manufacturer URL; ComponentLink1URL: http://www.xilinx.com/; ComponentLink2Description: XC95288XL Datasheet; ComponentLink2URL: http://www.xilinx.com/support/documentation/data_sheets/ds055.pdf; ComponentLink3Description: BG256TE Package Drawing; ComponentLink3URL: http://www.xilinx.com/support/documentation/package_specs/bg256.pdf; ComponentLink4Description: XC9500XL Documents; ComponentLink4URL: http://www.xilinx.com/support/documentation/xc9500xl.htm
footprint BG256TE (BGA, 272-Leads, Body 27x27mm, Pitch 1.27mm)
part A pins: L1 I/O (io), L2 I/O (io), L3 I/O (io), L4 I/O (io), M1 I/O (io), M2 I/O (io), M3 I/O (io), M4 I/O (io), N1 I/O (io), N2 I/O (io), N3 I/O (io), N4 I/O (io)
part B pins: G1 I/O (io), G2 I/O (io), H1 I/O (io), H2 I/O (io), H3 I/O (io), H4 I/O (io), J1 I/O (io), J2 I/O (io), J3 I/O (io), J4 I/O (io), K1 I/O (io), K2 I/O (io)
part C pins: P1 I/O (io), P3 I/O (io), P4 I/O (io), R1 I/O (io), R2 I/O (io), R3 I/O (io), T2 I/O,GCK1 (io), T3 I/O (io), T4 I/O (io), U1 I/O (io), U2 I/O,GCK2 (io), V1 I/O (io)
part D pins: C1 I/O,GTS1 (io), C2 I/O,GTS3 (io), D1 I/O (io), D2 I/O (io), D3 I/O,GTS4 (io), E1 I/O,GTS2 (io), E2 I/O (io), E3 I/O (io), E4 I/O (io), F2 I/O (io), F3 I/O (io), G3 I/O (io)
part E pins: U3 I/O (io), U5 I/O (io), U7 I/O (io), V2 I/O (io), V3 I/O (io), V4 I/O (io), V5 I/O (io), V6 I/O (io), W4 I/O,GCK3 (io), Y2 I/O (io), Y3 I/O (io), Y4 I/O (io)
part F pins: A2 I/O,GSR (io), A3 I/O (io), A4 I/O (io), B2 I/O (io), B4 I/O (io), B5 I/O (io), C3 I/O (io), C4 I/O (io), C5 I/O (io), C6 I/O (io), D5 I/O (io), D7 I/O (io)
part G pins: U8 I/O (io), U9 I/O (io), V7 I/O (io), V8 I/O (io), V9 I/O (io), W6 I/O (io), W7 I/O (io), W8 I/O (io), W9 I/O (io), Y6 I/O (io), Y7 I/O (io), Y8 I/O (io)
part H pins: A5 I/O (io), A7 I/O (io), A8 I/O (io), A9 I/O (io), B6 I/O (io), B7 I/O (io), B8 I/O (io), B9 I/O (io), C8 I/O (io), C9 I/O (io), D8 I/O (io), D9 I/O (io)
part I pins: U11 I/O (io), U12 I/O (io), V11 I/O (io), V12 I/O (io), V13 I/O (io), W11 I/O (io), W12 I/O (io), W13 I/O (io), W14 I/O (io), Y11 I/O (io), Y12 I/O (io), Y13 I/O (io)
part J pins: A12 I/O (io), A13 I/O (io), A14 I/O (io), B10 I/O (io), B11 I/O (io), B13 I/O (io), C10 I/O (io), C11 I/O (io), C12 I/O (io), C13 I/O (io), D10 I/O (io), D12 I/O (io)
part K pins: U14 I/O (io), V14 I/O (io), V16 I/O (io), V17 I/O (io), V18 I/O (io), W15 I/O (io), W19 I/O (io), Y15 I/O (io), Y16 I/O (io), Y17 I/O (io), Y18 I/O (io), Y19 I/O (io)
part L pins: A15 I/O (io), A16 I/O (io), A17 I/O (io), A18 I/O (io), B15 I/O (io), B18 I/O (io), C14 I/O (io), C15 I/O (io), C16 I/O (io), C17 I/O (io), D14 I/O (io), D16 I/O (io)
part M pins: P17 I/O (io), P18 I/O (io), R18 I/O (io), R20 I/O (io), T17 I/O (io), T18 I/O (io), T19 I/O (io), U19 I/O (io), U20 I/O (io), V19 I/O (io), V20 I/O (io), Y20 I/O (io)
part N pins: C18 I/O (io), C20 I/O (io), D18 I/O (io), D19 I/O (io), D20 I/O (io), E18 I/O (io), E19 I/O (io), E20 I/O (io), F18 I/O (io), F19 I/O (io), G17 I/O (io), G19 I/O (io)
part O pins: L18 I/O (io), L19 I/O (io), L20 I/O (io), M17 I/O (io), M18 I/O (io), M20 I/O (io), N17 I/O (io), N18 I/O (io), N19 I/O (io), N20 I/O (io), P19 I/O (io), P20 I/O (io)
part P pins: G20 I/O (io), H17 I/O (io), H18 I/O (io), H19 I/O (io), H20 I/O (io), J17 I/O (io), J18 I/O (io), J19 I/O (io), J20 I/O (io), K17 I/O (io), K18 I/O (io), K19 I/O (io)
part Q pins: B12 TDO (out), U16 TCK (in), W16 TDI (in), W17 TMS (in)
part R pins: A10 VCCINT 3.3V (power), B3 VCCINT 3.3V (power), B14 VCCINT 3.3V (power), B17 VCCINT 3.3V (power), C7 VCCINT 3.3V (power), D4 VCCIO 2.5V/3.3 V (power), D6 VCCIO 2.5V/3.3 V (power), D11 VCCIO 2.5V/3.3 V (power), D15 VCCIO 2.5V/3.3 V (power), D17 VCCIO 2.5V/3.3 V (power), E17 VCCINT 3.3V (power), F1 VCCINT 3.3V (power), F4 VCCIO 2.5V/3.3 V (power), F17 VCCIO 2.5V/3.3 V (power), F20 VCCINT 3.3V (power), G4 VCCINT 3.3V (power), K4 VCCIO 2.5V/3.3 V (power), L17 VCCIO 2.5V/3.3 V (power), M19 VCCINT 3.3V (power), P2 VCCINT 3.3V (power), R4 VCCIO 2.5V/3.3 V (power), R17 VCCIO 2.5V/3.3 V (power), T20 VCCINT 3.3V (power), U4 VCCIO 2.5V/3.3 V (power), U6 VCCIO 2.5V/3.3 V (power), U10 VCCIO 2.5V/3.3 V (power), U13 VCCINT 3.3V (power), U15 VCCIO 2.5V/3.3 V (power), U17 VCCIO 2.5V/3.3 V (power), V10 VCCINT 3.3V (power), W5 VCCINT 3.3V (power), W18 VCCINT 3.3V (power), Y9 VCCINT 3.3V (power)
part S pins: A6 GND (power), A11 GND (power), B1 GND (power), B16 GND (power), D13 GND (power), G18 GND (power), J9 GND (power), J10 GND (power), J11 GND (power), J12 GND (power), K3 GND (power), K9 GND (power), K10 GND (power), K11 GND (power), K12 GND (power), K20 GND (power), L9 GND (power), L10 GND (power), L11 GND (power), L12 GND (power), M9 GND (power), M10 GND (power), M11 GND (power), M12 GND (power), R19 GND (power), T1 GND (power), U18 GND (power), V15 GND (power), W10 GND (power), Y5 GND (power), Y10 GND (power), Y14 GND (power)
part T pins: A1 NC, A19 NC, A20 NC, B19 NC, B20 NC, C19 NC, W1 NC, W2 NC, W3 NC, W20 NC, Y1 NC
part A text: BANK 1
part B text: BANK 2
part C text: BANK 3
part D text: BANK 4
part E text: BANK 5
part F text: BANK 6
part G text: BANK 7
part H text: BANK 8
part I text: BANK 9
part J text: BANK 10
part K text: BANK 11
part L text: BANK 12
part M text: BANK 13
part N text: BANK 14
part O text: BANK 15
part P text: BANK 16

## XC95288XL-7BG256I
designator U?
FastFLASH XC900XL, 3.3V High-Performance 288 Macrocell CPLD, 192 User I/Os, 256-Ball BGA, Speed Grade 7, Industrial Grade; Note: BGA package contains 16 extra balls (Grounded); DatasheetVersion: ver2.1, Apr-2007; PackageVersion: ver1.2, Apr-2006; PackageReference: BG256TE; PackageDescription: 256-Ball Plastic Ball Grid Array (BG256) - Thermally Enhanced; Code_JEDEC: MS-034-BAL-2; ComponentLink1Description: Manufacturer URL; ComponentLink1URL: http://www.xilinx.com/; ComponentLink2Description: XC95288XL Datasheet; ComponentLink2URL: http://www.xilinx.com/support/documentation/data_sheets/ds055.pdf; ComponentLink3Description: BG256TE Package Drawing; ComponentLink3URL: http://www.xilinx.com/support/documentation/package_specs/bg256.pdf; ComponentLink4Description: XC9500XL Documents; ComponentLink4URL: http://www.xilinx.com/support/documentation/xc9500xl.htm
footprint BG256TE (BGA, 272-Leads, Body 27x27mm, Pitch 1.27mm)
part A pins: L1 I/O (io), L2 I/O (io), L3 I/O (io), L4 I/O (io), M1 I/O (io), M2 I/O (io), M3 I/O (io), M4 I/O (io), N1 I/O (io), N2 I/O (io), N3 I/O (io), N4 I/O (io)
part B pins: G1 I/O (io), G2 I/O (io), H1 I/O (io), H2 I/O (io), H3 I/O (io), H4 I/O (io), J1 I/O (io), J2 I/O (io), J3 I/O (io), J4 I/O (io), K1 I/O (io), K2 I/O (io)
part C pins: P1 I/O (io), P3 I/O (io), P4 I/O (io), R1 I/O (io), R2 I/O (io), R3 I/O (io), T2 I/O,GCK1 (io), T3 I/O (io), T4 I/O (io), U1 I/O (io), U2 I/O,GCK2 (io), V1 I/O (io)
part D pins: C1 I/O,GTS1 (io), C2 I/O,GTS3 (io), D1 I/O (io), D2 I/O (io), D3 I/O,GTS4 (io), E1 I/O,GTS2 (io), E2 I/O (io), E3 I/O (io), E4 I/O (io), F2 I/O (io), F3 I/O (io), G3 I/O (io)
part E pins: U3 I/O (io), U5 I/O (io), U7 I/O (io), V2 I/O (io), V3 I/O (io), V4 I/O (io), V5 I/O (io), V6 I/O (io), W4 I/O,GCK3 (io), Y2 I/O (io), Y3 I/O (io), Y4 I/O (io)
part F pins: A2 I/O,GSR (io), A3 I/O (io), A4 I/O (io), B2 I/O (io), B4 I/O (io), B5 I/O (io), C3 I/O (io), C4 I/O (io), C5 I/O (io), C6 I/O (io), D5 I/O (io), D7 I/O (io)
part G pins: U8 I/O (io), U9 I/O (io), V7 I/O (io), V8 I/O (io), V9 I/O (io), W6 I/O (io), W7 I/O (io), W8 I/O (io), W9 I/O (io), Y6 I/O (io), Y7 I/O (io), Y8 I/O (io)
part H pins: A5 I/O (io), A7 I/O (io), A8 I/O (io), A9 I/O (io), B6 I/O (io), B7 I/O (io), B8 I/O (io), B9 I/O (io), C8 I/O (io), C9 I/O (io), D8 I/O (io), D9 I/O (io)
part I pins: U11 I/O (io), U12 I/O (io), V11 I/O (io), V12 I/O (io), V13 I/O (io), W11 I/O (io), W12 I/O (io), W13 I/O (io), W14 I/O (io), Y11 I/O (io), Y12 I/O (io), Y13 I/O (io)
part J pins: A12 I/O (io), A13 I/O (io), A14 I/O (io), B10 I/O (io), B11 I/O (io), B13 I/O (io), C10 I/O (io), C11 I/O (io), C12 I/O (io), C13 I/O (io), D10 I/O (io), D12 I/O (io)
part K pins: U14 I/O (io), V14 I/O (io), V16 I/O (io), V17 I/O (io), V18 I/O (io), W15 I/O (io), W19 I/O (io), Y15 I/O (io), Y16 I/O (io), Y17 I/O (io), Y18 I/O (io), Y19 I/O (io)
part L pins: A15 I/O (io), A16 I/O (io), A17 I/O (io), A18 I/O (io), B15 I/O (io), B18 I/O (io), C14 I/O (io), C15 I/O (io), C16 I/O (io), C17 I/O (io), D14 I/O (io), D16 I/O (io)
part M pins: P17 I/O (io), P18 I/O (io), R18 I/O (io), R20 I/O (io), T17 I/O (io), T18 I/O (io), T19 I/O (io), U19 I/O (io), U20 I/O (io), V19 I/O (io), V20 I/O (io), Y20 I/O (io)
part N pins: C18 I/O (io), C20 I/O (io), D18 I/O (io), D19 I/O (io), D20 I/O (io), E18 I/O (io), E19 I/O (io), E20 I/O (io), F18 I/O (io), F19 I/O (io), G17 I/O (io), G19 I/O (io)
part O pins: L18 I/O (io), L19 I/O (io), L20 I/O (io), M17 I/O (io), M18 I/O (io), M20 I/O (io), N17 I/O (io), N18 I/O (io), N19 I/O (io), N20 I/O (io), P19 I/O (io), P20 I/O (io)
part P pins: G20 I/O (io), H17 I/O (io), H18 I/O (io), H19 I/O (io), H20 I/O (io), J17 I/O (io), J18 I/O (io), J19 I/O (io), J20 I/O (io), K17 I/O (io), K18 I/O (io), K19 I/O (io)
part Q pins: B12 TDO (out), U16 TCK (in), W16 TDI (in), W17 TMS (in)
part R pins: A10 VCCINT 3.3V (power), B3 VCCINT 3.3V (power), B14 VCCINT 3.3V (power), B17 VCCINT 3.3V (power), C7 VCCINT 3.3V (power), D4 VCCIO 2.5V/3.3 V (power), D6 VCCIO 2.5V/3.3 V (power), D11 VCCIO 2.5V/3.3 V (power), D15 VCCIO 2.5V/3.3 V (power), D17 VCCIO 2.5V/3.3 V (power), E17 VCCINT 3.3V (power), F1 VCCINT 3.3V (power), F4 VCCIO 2.5V/3.3 V (power), F17 VCCIO 2.5V/3.3 V (power), F20 VCCINT 3.3V (power), G4 VCCINT 3.3V (power), K4 VCCIO 2.5V/3.3 V (power), L17 VCCIO 2.5V/3.3 V (power), M19 VCCINT 3.3V (power), P2 VCCINT 3.3V (power), R4 VCCIO 2.5V/3.3 V (power), R17 VCCIO 2.5V/3.3 V (power), T20 VCCINT 3.3V (power), U4 VCCIO 2.5V/3.3 V (power), U6 VCCIO 2.5V/3.3 V (power), U10 VCCIO 2.5V/3.3 V (power), U13 VCCINT 3.3V (power), U15 VCCIO 2.5V/3.3 V (power), U17 VCCIO 2.5V/3.3 V (power), V10 VCCINT 3.3V (power), W5 VCCINT 3.3V (power), W18 VCCINT 3.3V (power), Y9 VCCINT 3.3V (power)
part S pins: A6 GND (power), A11 GND (power), B1 GND (power), B16 GND (power), D13 GND (power), G18 GND (power), J9 GND (power), J10 GND (power), J11 GND (power), J12 GND (power), K3 GND (power), K9 GND (power), K10 GND (power), K11 GND (power), K12 GND (power), K20 GND (power), L9 GND (power), L10 GND (power), L11 GND (power), L12 GND (power), M9 GND (power), M10 GND (power), M11 GND (power), M12 GND (power), R19 GND (power), T1 GND (power), U18 GND (power), V15 GND (power), W10 GND (power), Y5 GND (power), Y10 GND (power), Y14 GND (power)
part T pins: A1 NC, A19 NC, A20 NC, B19 NC, B20 NC, C19 NC, W1 NC, W2 NC, W3 NC, W20 NC, Y1 NC
part A text: BANK 1
part B text: BANK 2
part C text: BANK 3
part D text: BANK 4
part E text: BANK 5
part F text: BANK 6
part G text: BANK 7
part H text: BANK 8
part I text: BANK 9
part J text: BANK 10
part K text: BANK 11
part L text: BANK 12
part M text: BANK 13
part N text: BANK 14
part O text: BANK 15
part P text: BANK 16

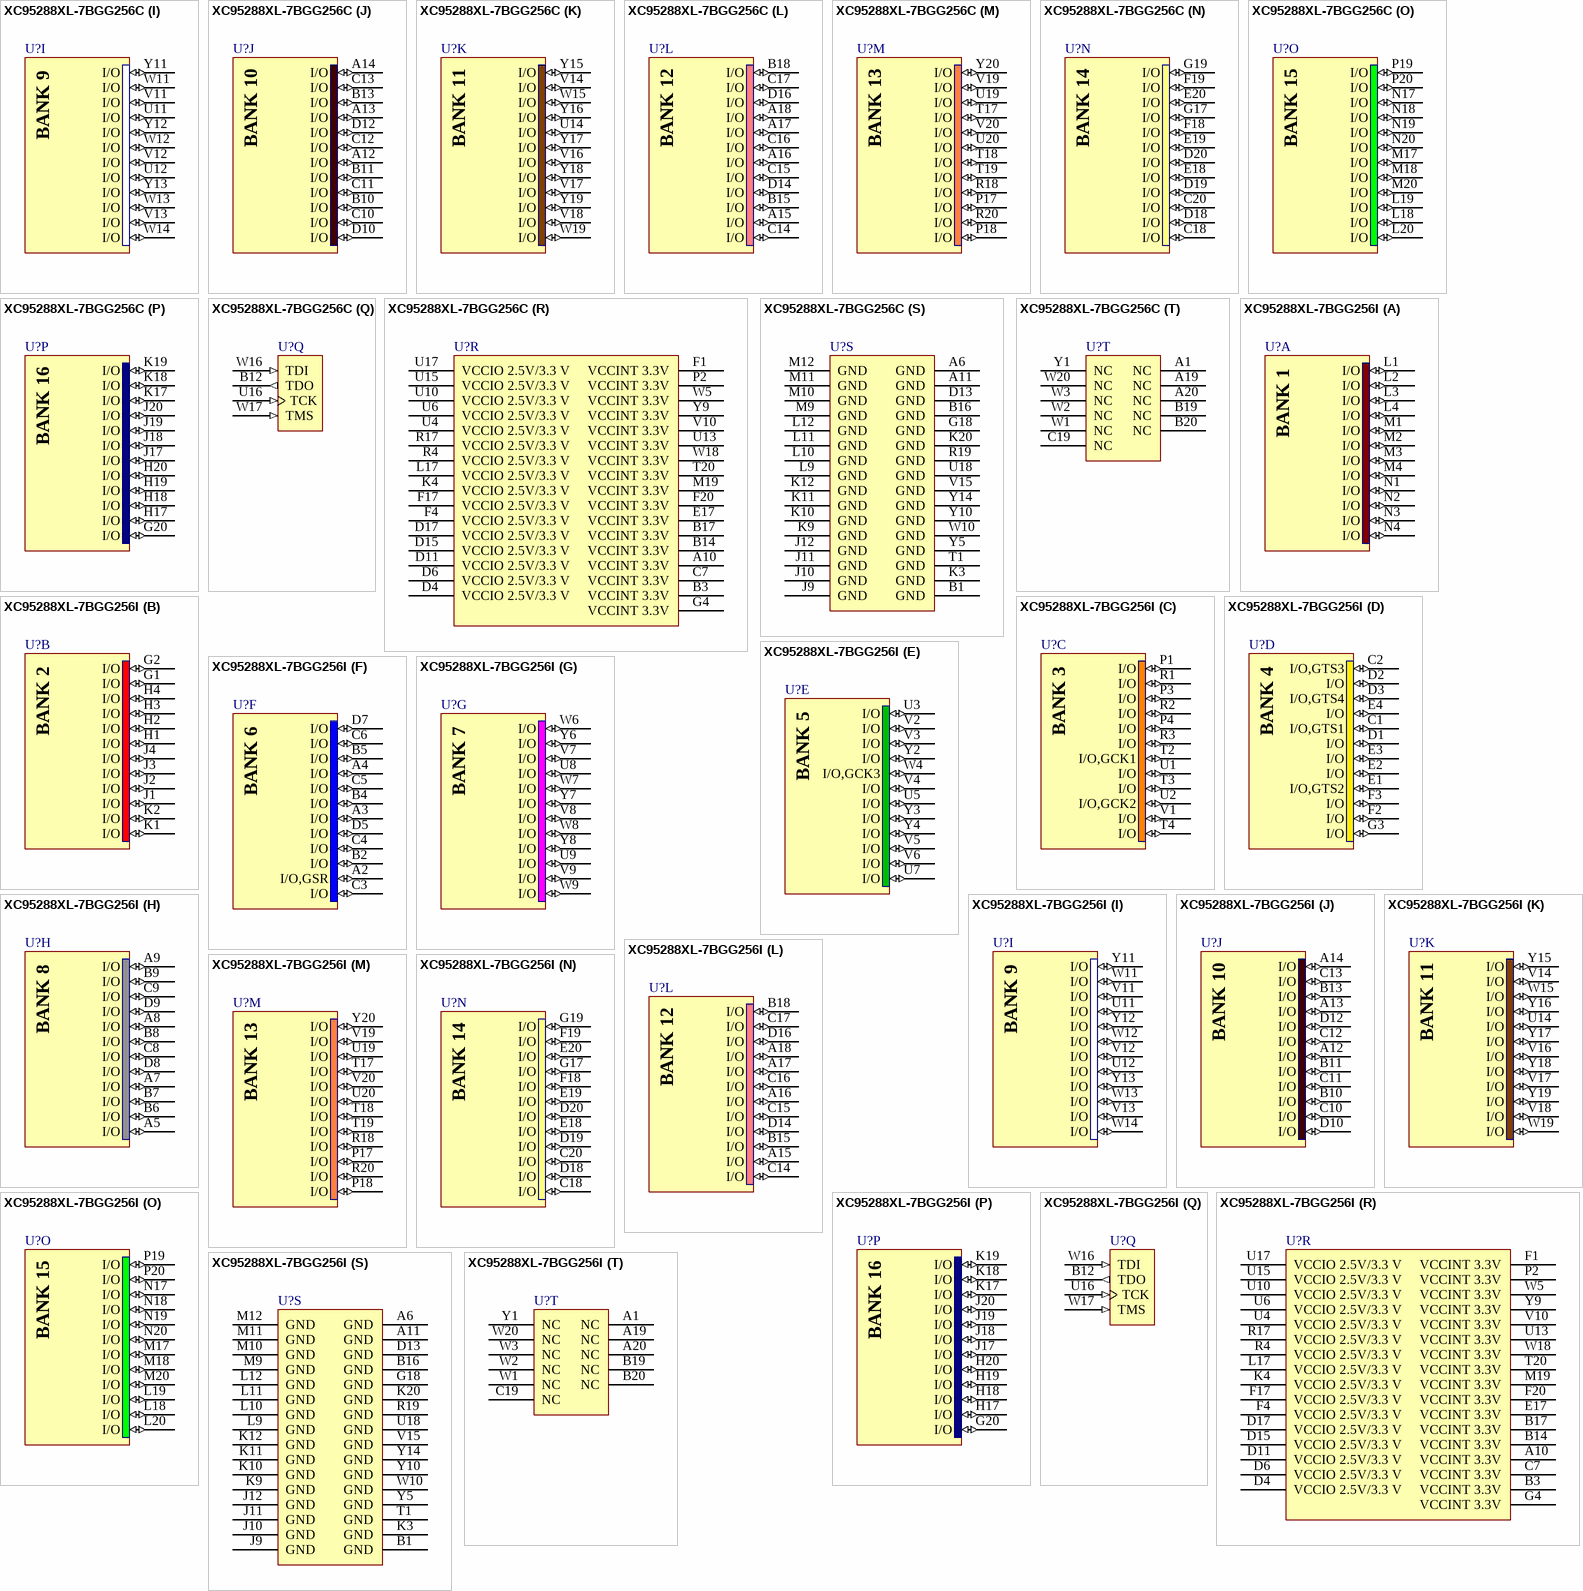
[diagram p37: symbols XC95288XL-7BGG256C to XC95288XL-7BGG256I]

## XC95288XL-7BGG256C
designator U?
FastFLASH XC900XL, 3.3V High-Performance 288 Macrocell CPLD, 192 User I/Os, 256-Ball BGA, Speed Grade 7, Commercial Grade, Pb-Free; Note: BGA package contains 16 extra balls (Grounded); DatasheetVersion: ver2.1, Apr-2007; PackageVersion: ver1.2, Apr-2006; PackageReference: BGG256TE; PackageDescription: 256-Ball Plastic Ball Grid Array (BGG256) - Thermally Enhanced - Pb-Free; Code_JEDEC: MS-034-BAL-2; ComponentLink1Description: Manufacturer URL; ComponentLink1URL: http://www.xilinx.com/; ComponentLink2Description: XC95288XL Datasheet; ComponentLink2URL: http://www.xilinx.com/support/documentation/data_sheets/ds055.pdf; ComponentLink3Description: BGG256TE Package Drawing; ComponentLink3URL: http://www.xilinx.com/support/documentation/package_specs/bg256.pdf; ComponentLink4Description: XC9500XL Documents; ComponentLink4URL: http://www.xilinx.com/support/documentation/xc9500xl.htm
footprint BGG256TE (BGA, 272-Leads, Body 27x27mm, Pitch 1.27mm)
part A pins: L1 I/O (io), L2 I/O (io), L3 I/O (io), L4 I/O (io), M1 I/O (io), M2 I/O (io), M3 I/O (io), M4 I/O (io), N1 I/O (io), N2 I/O (io), N3 I/O (io), N4 I/O (io)
part B pins: G1 I/O (io), G2 I/O (io), H1 I/O (io), H2 I/O (io), H3 I/O (io), H4 I/O (io), J1 I/O (io), J2 I/O (io), J3 I/O (io), J4 I/O (io), K1 I/O (io), K2 I/O (io)
part C pins: P1 I/O (io), P3 I/O (io), P4 I/O (io), R1 I/O (io), R2 I/O (io), R3 I/O (io), T2 I/O,GCK1 (io), T3 I/O (io), T4 I/O (io), U1 I/O (io), U2 I/O,GCK2 (io), V1 I/O (io)
part D pins: C1 I/O,GTS1 (io), C2 I/O,GTS3 (io), D1 I/O (io), D2 I/O (io), D3 I/O,GTS4 (io), E1 I/O,GTS2 (io), E2 I/O (io), E3 I/O (io), E4 I/O (io), F2 I/O (io), F3 I/O (io), G3 I/O (io)
part E pins: U3 I/O (io), U5 I/O (io), U7 I/O (io), V2 I/O (io), V3 I/O (io), V4 I/O (io), V5 I/O (io), V6 I/O (io), W4 I/O,GCK3 (io), Y2 I/O (io), Y3 I/O (io), Y4 I/O (io)
part F pins: A2 I/O,GSR (io), A3 I/O (io), A4 I/O (io), B2 I/O (io), B4 I/O (io), B5 I/O (io), C3 I/O (io), C4 I/O (io), C5 I/O (io), C6 I/O (io), D5 I/O (io), D7 I/O (io)
part G pins: U8 I/O (io), U9 I/O (io), V7 I/O (io), V8 I/O (io), V9 I/O (io), W6 I/O (io), W7 I/O (io), W8 I/O (io), W9 I/O (io), Y6 I/O (io), Y7 I/O (io), Y8 I/O (io)
part H pins: A5 I/O (io), A7 I/O (io), A8 I/O (io), A9 I/O (io), B6 I/O (io), B7 I/O (io), B8 I/O (io), B9 I/O (io), C8 I/O (io), C9 I/O (io), D8 I/O (io), D9 I/O (io)
part I pins: U11 I/O (io), U12 I/O (io), V11 I/O (io), V12 I/O (io), V13 I/O (io), W11 I/O (io), W12 I/O (io), W13 I/O (io), W14 I/O (io), Y11 I/O (io), Y12 I/O (io), Y13 I/O (io)
part J pins: A12 I/O (io), A13 I/O (io), A14 I/O (io), B10 I/O (io), B11 I/O (io), B13 I/O (io), C10 I/O (io), C11 I/O (io), C12 I/O (io), C13 I/O (io), D10 I/O (io), D12 I/O (io)
part K pins: U14 I/O (io), V14 I/O (io), V16 I/O (io), V17 I/O (io), V18 I/O (io), W15 I/O (io), W19 I/O (io), Y15 I/O (io), Y16 I/O (io), Y17 I/O (io), Y18 I/O (io), Y19 I/O (io)
part L pins: A15 I/O (io), A16 I/O (io), A17 I/O (io), A18 I/O (io), B15 I/O (io), B18 I/O (io), C14 I/O (io), C15 I/O (io), C16 I/O (io), C17 I/O (io), D14 I/O (io), D16 I/O (io)
part M pins: P17 I/O (io), P18 I/O (io), R18 I/O (io), R20 I/O (io), T17 I/O (io), T18 I/O (io), T19 I/O (io), U19 I/O (io), U20 I/O (io), V19 I/O (io), V20 I/O (io), Y20 I/O (io)
part N pins: C18 I/O (io), C20 I/O (io), D18 I/O (io), D19 I/O (io), D20 I/O (io), E18 I/O (io), E19 I/O (io), E20 I/O (io), F18 I/O (io), F19 I/O (io), G17 I/O (io), G19 I/O (io)
part O pins: L18 I/O (io), L19 I/O (io), L20 I/O (io), M17 I/O (io), M18 I/O (io), M20 I/O (io), N17 I/O (io), N18 I/O (io), N19 I/O (io), N20 I/O (io), P19 I/O (io), P20 I/O (io)
part P pins: G20 I/O (io), H17 I/O (io), H18 I/O (io), H19 I/O (io), H20 I/O (io), J17 I/O (io), J18 I/O (io), J19 I/O (io), J20 I/O (io), K17 I/O (io), K18 I/O (io), K19 I/O (io)
part Q pins: B12 TDO (out), U16 TCK (in), W16 TDI (in), W17 TMS (in)
part R pins: A10 VCCINT 3.3V (power), B3 VCCINT 3.3V (power), B14 VCCINT 3.3V (power), B17 VCCINT 3.3V (power), C7 VCCINT 3.3V (power), D4 VCCIO 2.5V/3.3 V (power), D6 VCCIO 2.5V/3.3 V (power), D11 VCCIO 2.5V/3.3 V (power), D15 VCCIO 2.5V/3.3 V (power), D17 VCCIO 2.5V/3.3 V (power), E17 VCCINT 3.3V (power), F1 VCCINT 3.3V (power), F4 VCCIO 2.5V/3.3 V (power), F17 VCCIO 2.5V/3.3 V (power), F20 VCCINT 3.3V (power), G4 VCCINT 3.3V (power), K4 VCCIO 2.5V/3.3 V (power), L17 VCCIO 2.5V/3.3 V (power), M19 VCCINT 3.3V (power), P2 VCCINT 3.3V (power), R4 VCCIO 2.5V/3.3 V (power), R17 VCCIO 2.5V/3.3 V (power), T20 VCCINT 3.3V (power), U4 VCCIO 2.5V/3.3 V (power), U6 VCCIO 2.5V/3.3 V (power), U10 VCCIO 2.5V/3.3 V (power), U13 VCCINT 3.3V (power), U15 VCCIO 2.5V/3.3 V (power), U17 VCCIO 2.5V/3.3 V (power), V10 VCCINT 3.3V (power), W5 VCCINT 3.3V (power), W18 VCCINT 3.3V (power), Y9 VCCINT 3.3V (power)
part S pins: A6 GND (power), A11 GND (power), B1 GND (power), B16 GND (power), D13 GND (power), G18 GND (power), J9 GND (power), J10 GND (power), J11 GND (power), J12 GND (power), K3 GND (power), K9 GND (power), K10 GND (power), K11 GND (power), K12 GND (power), K20 GND (power), L9 GND (power), L10 GND (power), L11 GND (power), L12 GND (power), M9 GND (power), M10 GND (power), M11 GND (power), M12 GND (power), R19 GND (power), T1 GND (power), U18 GND (power), V15 GND (power), W10 GND (power), Y5 GND (power), Y10 GND (power), Y14 GND (power)
part T pins: A1 NC, A19 NC, A20 NC, B19 NC, B20 NC, C19 NC, W1 NC, W2 NC, W3 NC, W20 NC, Y1 NC
part A text: BANK 1
part B text: BANK 2
part C text: BANK 3
part D text: BANK 4
part E text: BANK 5
part F text: BANK 6
part G text: BANK 7
part H text: BANK 8
part I text: BANK 9
part J text: BANK 10
part K text: BANK 11
part L text: BANK 12
part M text: BANK 13
part N text: BANK 14
part O text: BANK 15
part P text: BANK 16

## XC95288XL-7BGG256I
designator U?
FastFLASH XC900XL, 3.3V High-Performance 288 Macrocell CPLD, 192 User I/Os, 256-Ball BGA, Speed Grade 7, Industrial Grade, Pb-Free; Note: BGA package contains 16 extra balls (Grounded); DatasheetVersion: ver2.1, Apr-2007; PackageVersion: ver1.2, Apr-2006; PackageReference: BGG256TE; PackageDescription: 256-Ball Plastic Ball Grid Array (BGG256) - Thermally Enhanced - Pb-Free; Code_JEDEC: MS-034-BAL-2; ComponentLink1Description: Manufacturer URL; ComponentLink1URL: http://www.xilinx.com/; ComponentLink2Description: XC95288XL Datasheet; ComponentLink2URL: http://www.xilinx.com/support/documentation/data_sheets/ds055.pdf; ComponentLink3Description: BGG256TE Package Drawing; ComponentLink3URL: http://www.xilinx.com/support/documentation/package_specs/bg256.pdf; ComponentLink4Description: XC9500XL Documents; ComponentLink4URL: http://www.xilinx.com/support/documentation/xc9500xl.htm
footprint BGG256TE (BGA, 272-Leads, Body 27x27mm, Pitch 1.27mm)
part A pins: L1 I/O (io), L2 I/O (io), L3 I/O (io), L4 I/O (io), M1 I/O (io), M2 I/O (io), M3 I/O (io), M4 I/O (io), N1 I/O (io), N2 I/O (io), N3 I/O (io), N4 I/O (io)
part B pins: G1 I/O (io), G2 I/O (io), H1 I/O (io), H2 I/O (io), H3 I/O (io), H4 I/O (io), J1 I/O (io), J2 I/O (io), J3 I/O (io), J4 I/O (io), K1 I/O (io), K2 I/O (io)
part C pins: P1 I/O (io), P3 I/O (io), P4 I/O (io), R1 I/O (io), R2 I/O (io), R3 I/O (io), T2 I/O,GCK1 (io), T3 I/O (io), T4 I/O (io), U1 I/O (io), U2 I/O,GCK2 (io), V1 I/O (io)
part D pins: C1 I/O,GTS1 (io), C2 I/O,GTS3 (io), D1 I/O (io), D2 I/O (io), D3 I/O,GTS4 (io), E1 I/O,GTS2 (io), E2 I/O (io), E3 I/O (io), E4 I/O (io), F2 I/O (io), F3 I/O (io), G3 I/O (io)
part E pins: U3 I/O (io), U5 I/O (io), U7 I/O (io), V2 I/O (io), V3 I/O (io), V4 I/O (io), V5 I/O (io), V6 I/O (io), W4 I/O,GCK3 (io), Y2 I/O (io), Y3 I/O (io), Y4 I/O (io)
part F pins: A2 I/O,GSR (io), A3 I/O (io), A4 I/O (io), B2 I/O (io), B4 I/O (io), B5 I/O (io), C3 I/O (io), C4 I/O (io), C5 I/O (io), C6 I/O (io), D5 I/O (io), D7 I/O (io)
part G pins: U8 I/O (io), U9 I/O (io), V7 I/O (io), V8 I/O (io), V9 I/O (io), W6 I/O (io), W7 I/O (io), W8 I/O (io), W9 I/O (io), Y6 I/O (io), Y7 I/O (io), Y8 I/O (io)
part H pins: A5 I/O (io), A7 I/O (io), A8 I/O (io), A9 I/O (io), B6 I/O (io), B7 I/O (io), B8 I/O (io), B9 I/O (io), C8 I/O (io), C9 I/O (io), D8 I/O (io), D9 I/O (io)
part I pins: U11 I/O (io), U12 I/O (io), V11 I/O (io), V12 I/O (io), V13 I/O (io), W11 I/O (io), W12 I/O (io), W13 I/O (io), W14 I/O (io), Y11 I/O (io), Y12 I/O (io), Y13 I/O (io)
part J pins: A12 I/O (io), A13 I/O (io), A14 I/O (io), B10 I/O (io), B11 I/O (io), B13 I/O (io), C10 I/O (io), C11 I/O (io), C12 I/O (io), C13 I/O (io), D10 I/O (io), D12 I/O (io)
part K pins: U14 I/O (io), V14 I/O (io), V16 I/O (io), V17 I/O (io), V18 I/O (io), W15 I/O (io), W19 I/O (io), Y15 I/O (io), Y16 I/O (io), Y17 I/O (io), Y18 I/O (io), Y19 I/O (io)
part L pins: A15 I/O (io), A16 I/O (io), A17 I/O (io), A18 I/O (io), B15 I/O (io), B18 I/O (io), C14 I/O (io), C15 I/O (io), C16 I/O (io), C17 I/O (io), D14 I/O (io), D16 I/O (io)
part M pins: P17 I/O (io), P18 I/O (io), R18 I/O (io), R20 I/O (io), T17 I/O (io), T18 I/O (io), T19 I/O (io), U19 I/O (io), U20 I/O (io), V19 I/O (io), V20 I/O (io), Y20 I/O (io)
part N pins: C18 I/O (io), C20 I/O (io), D18 I/O (io), D19 I/O (io), D20 I/O (io), E18 I/O (io), E19 I/O (io), E20 I/O (io), F18 I/O (io), F19 I/O (io), G17 I/O (io), G19 I/O (io)
part O pins: L18 I/O (io), L19 I/O (io), L20 I/O (io), M17 I/O (io), M18 I/O (io), M20 I/O (io), N17 I/O (io), N18 I/O (io), N19 I/O (io), N20 I/O (io), P19 I/O (io), P20 I/O (io)
part P pins: G20 I/O (io), H17 I/O (io), H18 I/O (io), H19 I/O (io), H20 I/O (io), J17 I/O (io), J18 I/O (io), J19 I/O (io), J20 I/O (io), K17 I/O (io), K18 I/O (io), K19 I/O (io)
part Q pins: B12 TDO (out), U16 TCK (in), W16 TDI (in), W17 TMS (in)
part R pins: A10 VCCINT 3.3V (power), B3 VCCINT 3.3V (power), B14 VCCINT 3.3V (power), B17 VCCINT 3.3V (power), C7 VCCINT 3.3V (power), D4 VCCIO 2.5V/3.3 V (power), D6 VCCIO 2.5V/3.3 V (power), D11 VCCIO 2.5V/3.3 V (power), D15 VCCIO 2.5V/3.3 V (power), D17 VCCIO 2.5V/3.3 V (power), E17 VCCINT 3.3V (power), F1 VCCINT 3.3V (power), F4 VCCIO 2.5V/3.3 V (power), F17 VCCIO 2.5V/3.3 V (power), F20 VCCINT 3.3V (power), G4 VCCINT 3.3V (power), K4 VCCIO 2.5V/3.3 V (power), L17 VCCIO 2.5V/3.3 V (power), M19 VCCINT 3.3V (power), P2 VCCINT 3.3V (power), R4 VCCIO 2.5V/3.3 V (power), R17 VCCIO 2.5V/3.3 V (power), T20 VCCINT 3.3V (power), U4 VCCIO 2.5V/3.3 V (power), U6 VCCIO 2.5V/3.3 V (power), U10 VCCIO 2.5V/3.3 V (power), U13 VCCINT 3.3V (power), U15 VCCIO 2.5V/3.3 V (power), U17 VCCIO 2.5V/3.3 V (power), V10 VCCINT 3.3V (power), W5 VCCINT 3.3V (power), W18 VCCINT 3.3V (power), Y9 VCCINT 3.3V (power)
part S pins: A6 GND (power), A11 GND (power), B1 GND (power), B16 GND (power), D13 GND (power), G18 GND (power), J9 GND (power), J10 GND (power), J11 GND (power), J12 GND (power), K3 GND (power), K9 GND (power), K10 GND (power), K11 GND (power), K12 GND (power), K20 GND (power), L9 GND (power), L10 GND (power), L11 GND (power), L12 GND (power), M9 GND (power), M10 GND (power), M11 GND (power), M12 GND (power), R19 GND (power), T1 GND (power), U18 GND (power), V15 GND (power), W10 GND (power), Y5 GND (power), Y10 GND (power), Y14 GND (power)
part T pins: A1 NC, A19 NC, A20 NC, B19 NC, B20 NC, C19 NC, W1 NC, W2 NC, W3 NC, W20 NC, Y1 NC
part A text: BANK 1
part B text: BANK 2
part C text: BANK 3
part D text: BANK 4
part E text: BANK 5
part F text: BANK 6
part G text: BANK 7
part H text: BANK 8
part I text: BANK 9
part J text: BANK 10
part K text: BANK 11
part L text: BANK 12
part M text: BANK 13
part N text: BANK 14
part O text: BANK 15
part P text: BANK 16

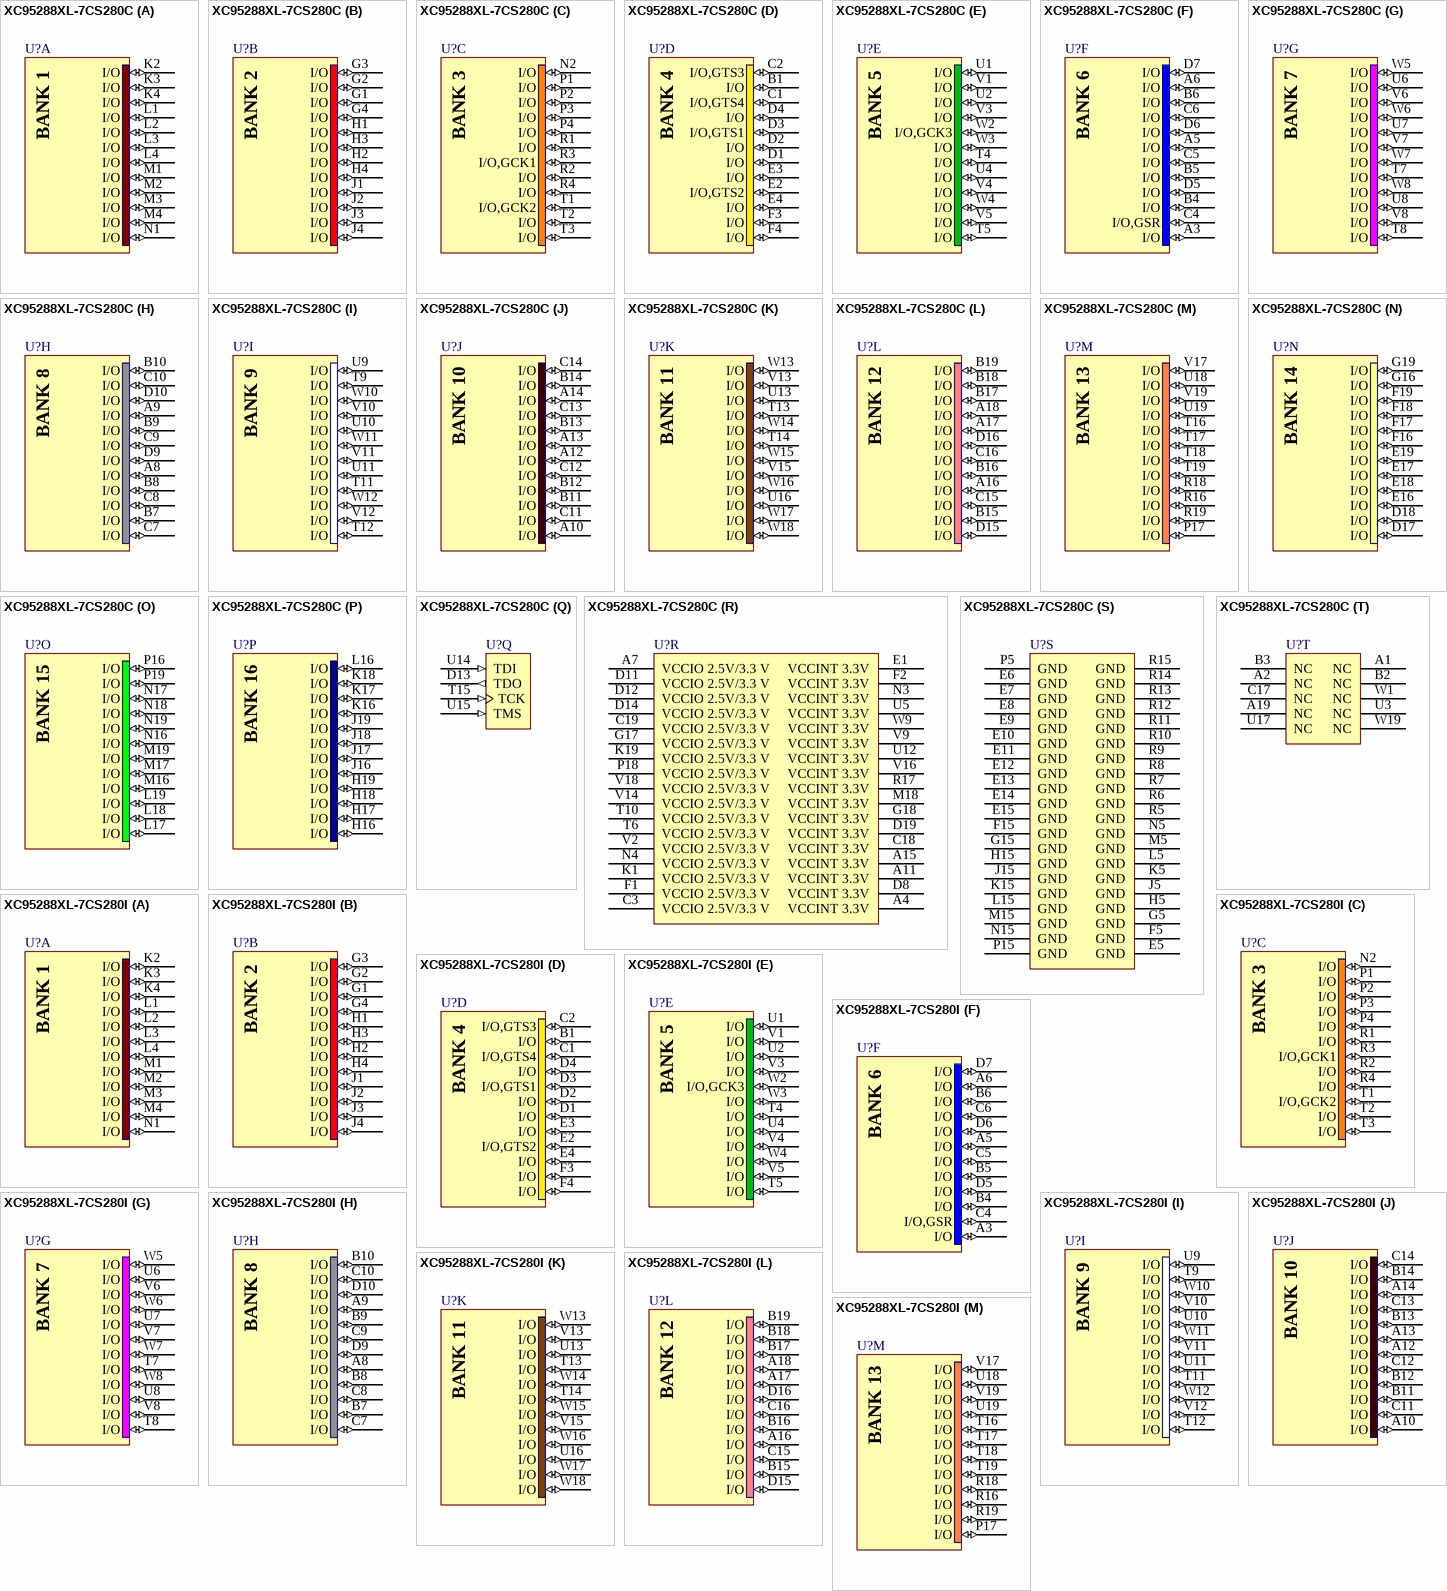
[diagram p38: symbols XC95288XL-7CS280C to XC95288XL-7CS280I]

## XC95288XL-7CS280C
designator U?
FastFLASH XC900XL, 3.3V High-Performance 288 Macrocell CPLD, 192 User I/Os, 280-Ball CSBGA, Speed Grade 7, Commercial Grade; DatasheetVersion: ver2.1, Apr-2007; PackageVersion: ver1.0, Dec-2005; PackageReference: CS280LAM; PackageDescription: 280-Ball Laminate Chip Scale Ball Grid Array (CS280LAM); Code_JEDEC: MO-216-BAL-1 (Depopulated); ComponentLink1Description: Manufacturer URL; ComponentLink1URL: http://www.xilinx.com/; ComponentLink2Description: XC95288XL Datasheet; ComponentLink2URL: http://www.xilinx.com/support/documentation/data_sheets/ds055.pdf; ComponentLink3Description: CS280LAM Package Drawing; ComponentLink3URL: http://www.xilinx.com/support/documentation/package_specs/cs280_lam.pdf; ComponentLink4Description: XC9500XL Documents; ComponentLink4URL: http://www.xilinx.com/support/documentation/xc9500xl.htm
footprint CS280LAM (BGA, 280-Leads, Body 16x16mm, Pitch 0.8mm)
part A pins: K2 I/O (io), K3 I/O (io), K4 I/O (io), L1 I/O (io), L2 I/O (io), L3 I/O (io), L4 I/O (io), M1 I/O (io), M2 I/O (io), M3 I/O (io), M4 I/O (io), N1 I/O (io)
part B pins: G1 I/O (io), G2 I/O (io), G3 I/O (io), G4 I/O (io), H1 I/O (io), H2 I/O (io), H3 I/O (io), H4 I/O (io), J1 I/O (io), J2 I/O (io), J3 I/O (io), J4 I/O (io)
part C pins: N2 I/O (io), P1 I/O (io), P2 I/O (io), P3 I/O (io), P4 I/O (io), R1 I/O (io), R2 I/O (io), R3 I/O,GCK1 (io), R4 I/O (io), T1 I/O,GCK2 (io), T2 I/O (io), T3 I/O (io)
part D pins: B1 I/O (io), C1 I/O,GTS4 (io), C2 I/O,GTS3 (io), D1 I/O (io), D2 I/O (io), D3 I/O,GTS1 (io), D4 I/O (io), E2 I/O,GTS2 (io), E3 I/O (io), E4 I/O (io), F3 I/O (io), F4 I/O (io)
part E pins: T4 I/O (io), T5 I/O (io), U1 I/O (io), U2 I/O (io), U4 I/O (io), V1 I/O (io), V3 I/O (io), V4 I/O (io), V5 I/O (io), W2 I/O,GCK3 (io), W3 I/O (io), W4 I/O (io)
part F pins: A3 I/O (io), A5 I/O (io), A6 I/O (io), B4 I/O (io), B5 I/O (io), B6 I/O (io), C4 I/O,GSR (io), C5 I/O (io), C6 I/O (io), D5 I/O (io), D6 I/O (io), D7 I/O (io)
part G pins: T7 I/O (io), T8 I/O (io), U6 I/O (io), U7 I/O (io), U8 I/O (io), V6 I/O (io), V7 I/O (io), V8 I/O (io), W5 I/O (io), W6 I/O (io), W7 I/O (io), W8 I/O (io)
part H pins: A8 I/O (io), A9 I/O (io), B7 I/O (io), B8 I/O (io), B9 I/O (io), B10 I/O (io), C7 I/O (io), C8 I/O (io), C9 I/O (io), C10 I/O (io), D9 I/O (io), D10 I/O (io)
part I pins: T9 I/O (io), T11 I/O (io), T12 I/O (io), U9 I/O (io), U10 I/O (io), U11 I/O (io), V10 I/O (io), V11 I/O (io), V12 I/O (io), W10 I/O (io), W11 I/O (io), W12 I/O (io)
part J pins: A10 I/O (io), A12 I/O (io), A13 I/O (io), A14 I/O (io), B11 I/O (io), B12 I/O (io), B13 I/O (io), B14 I/O (io), C11 I/O (io), C12 I/O (io), C13 I/O (io), C14 I/O (io)
part K pins: T13 I/O (io), T14 I/O (io), U13 I/O (io), U16 I/O (io), V13 I/O (io), V15 I/O (io), W13 I/O (io), W14 I/O (io), W15 I/O (io), W16 I/O (io), W17 I/O (io), W18 I/O (io)
part L pins: A16 I/O (io), A17 I/O (io), A18 I/O (io), B15 I/O (io), B16 I/O (io), B17 I/O (io), B18 I/O (io), B19 I/O (io), C15 I/O (io), C16 I/O (io), D15 I/O (io), D16 I/O (io)
part M pins: P17 I/O (io), R16 I/O (io), R18 I/O (io), R19 I/O (io), T16 I/O (io), T17 I/O (io), T18 I/O (io), T19 I/O (io), U18 I/O (io), U19 I/O (io), V17 I/O (io), V19 I/O (io)
part N pins: D17 I/O (io), D18 I/O (io), E16 I/O (io), E17 I/O (io), E18 I/O (io), E19 I/O (io), F16 I/O (io), F17 I/O (io), F18 I/O (io), F19 I/O (io), G16 I/O (io), G19 I/O (io)
part O pins: L17 I/O (io), L18 I/O (io), L19 I/O (io), M16 I/O (io), M17 I/O (io), M19 I/O (io), N16 I/O (io), N17 I/O (io), N18 I/O (io), N19 I/O (io), P16 I/O (io), P19 I/O (io)
part P pins: H16 I/O (io), H17 I/O (io), H18 I/O (io), H19 I/O (io), J16 I/O (io), J17 I/O (io), J18 I/O (io), J19 I/O (io), K16 I/O (io), K17 I/O (io), K18 I/O (io), L16 I/O (io)
part Q pins: D13 TDO (out), T15 TCK (in), U14 TDI (in), U15 TMS (in)
part R pins: A4 VCCINT 3.3V (power), A7 VCCIO 2.5V/3.3 V (power), A11 VCCINT 3.3V (power), A15 VCCINT 3.3V (power), C3 VCCIO 2.5V/3.3 V (power), C18 VCCINT 3.3V (power), C19 VCCIO 2.5V/3.3 V (power), D8 VCCINT 3.3V (power), D11 VCCIO 2.5V/3.3 V (power), D12 VCCIO 2.5V/3.3 V (power), D14 VCCIO 2.5V/3.3 V (power), D19 VCCINT 3.3V (power), E1 VCCINT 3.3V (power), F1 VCCIO 2.5V/3.3 V (power), F2 VCCINT 3.3V (power), G17 VCCIO 2.5V/3.3 V (power), G18 VCCINT 3.3V (power), K1 VCCIO 2.5V/3.3 V (power), K19 VCCIO 2.5V/3.3 V (power), M18 VCCINT 3.3V (power), N3 VCCINT 3.3V (power), N4 VCCIO 2.5V/3.3 V (power), P18 VCCIO 2.5V/3.3 V (power), R17 VCCINT 3.3V (power), T6 VCCIO 2.5V/3.3 V (power), T10 VCCIO 2.5V/3.3 V (power), U5 VCCINT 3.3V (power), U12 VCCINT 3.3V (power), V2 VCCIO 2.5V/3.3 V (power), V9 VCCINT 3.3V (power), V14 VCCIO 2.5V/3.3 V (power), V16 VCCINT 3.3V (power), V18 VCCIO 2.5V/3.3 V (power), W9 VCCINT 3.3V (power)
part S pins: E5 GND (power), E6 GND (power), E7 GND (power), E8 GND (power), E9 GND (power), E10 GND (power), E11 GND (power), E12 GND (power), E13 GND (power), E14 GND (power), E15 GND (power), F5 GND (power), F15 GND (power), G5 GND (power), G15 GND (power), H5 GND (power), H15 GND (power), J5 GND (power), J15 GND (power), K5 GND (power), K15 GND (power), L5 GND (power), L15 GND (power), M5 GND (power), M15 GND (power), N5 GND (power), N15 GND (power), P5 GND (power), P15 GND (power), R5 GND (power), R6 GND (power), R7 GND (power), R8 GND (power), R9 GND (power), R10 GND (power), R11 GND (power), R12 GND (power), R13 GND (power), R14 GND (power), R15 GND (power)
part T pins: A1 NC, A2 NC, A19 NC, B2 NC, B3 NC, C17 NC, U3 NC, U17 NC, W1 NC, W19 NC
part A text: BANK 1
part B text: BANK 2
part C text: BANK 3
part D text: BANK 4
part E text: BANK 5
part F text: BANK 6
part G text: BANK 7
part H text: BANK 8
part I text: BANK 9
part J text: BANK 10
part K text: BANK 11
part L text: BANK 12
part M text: BANK 13
part N text: BANK 14
part O text: BANK 15
part P text: BANK 16

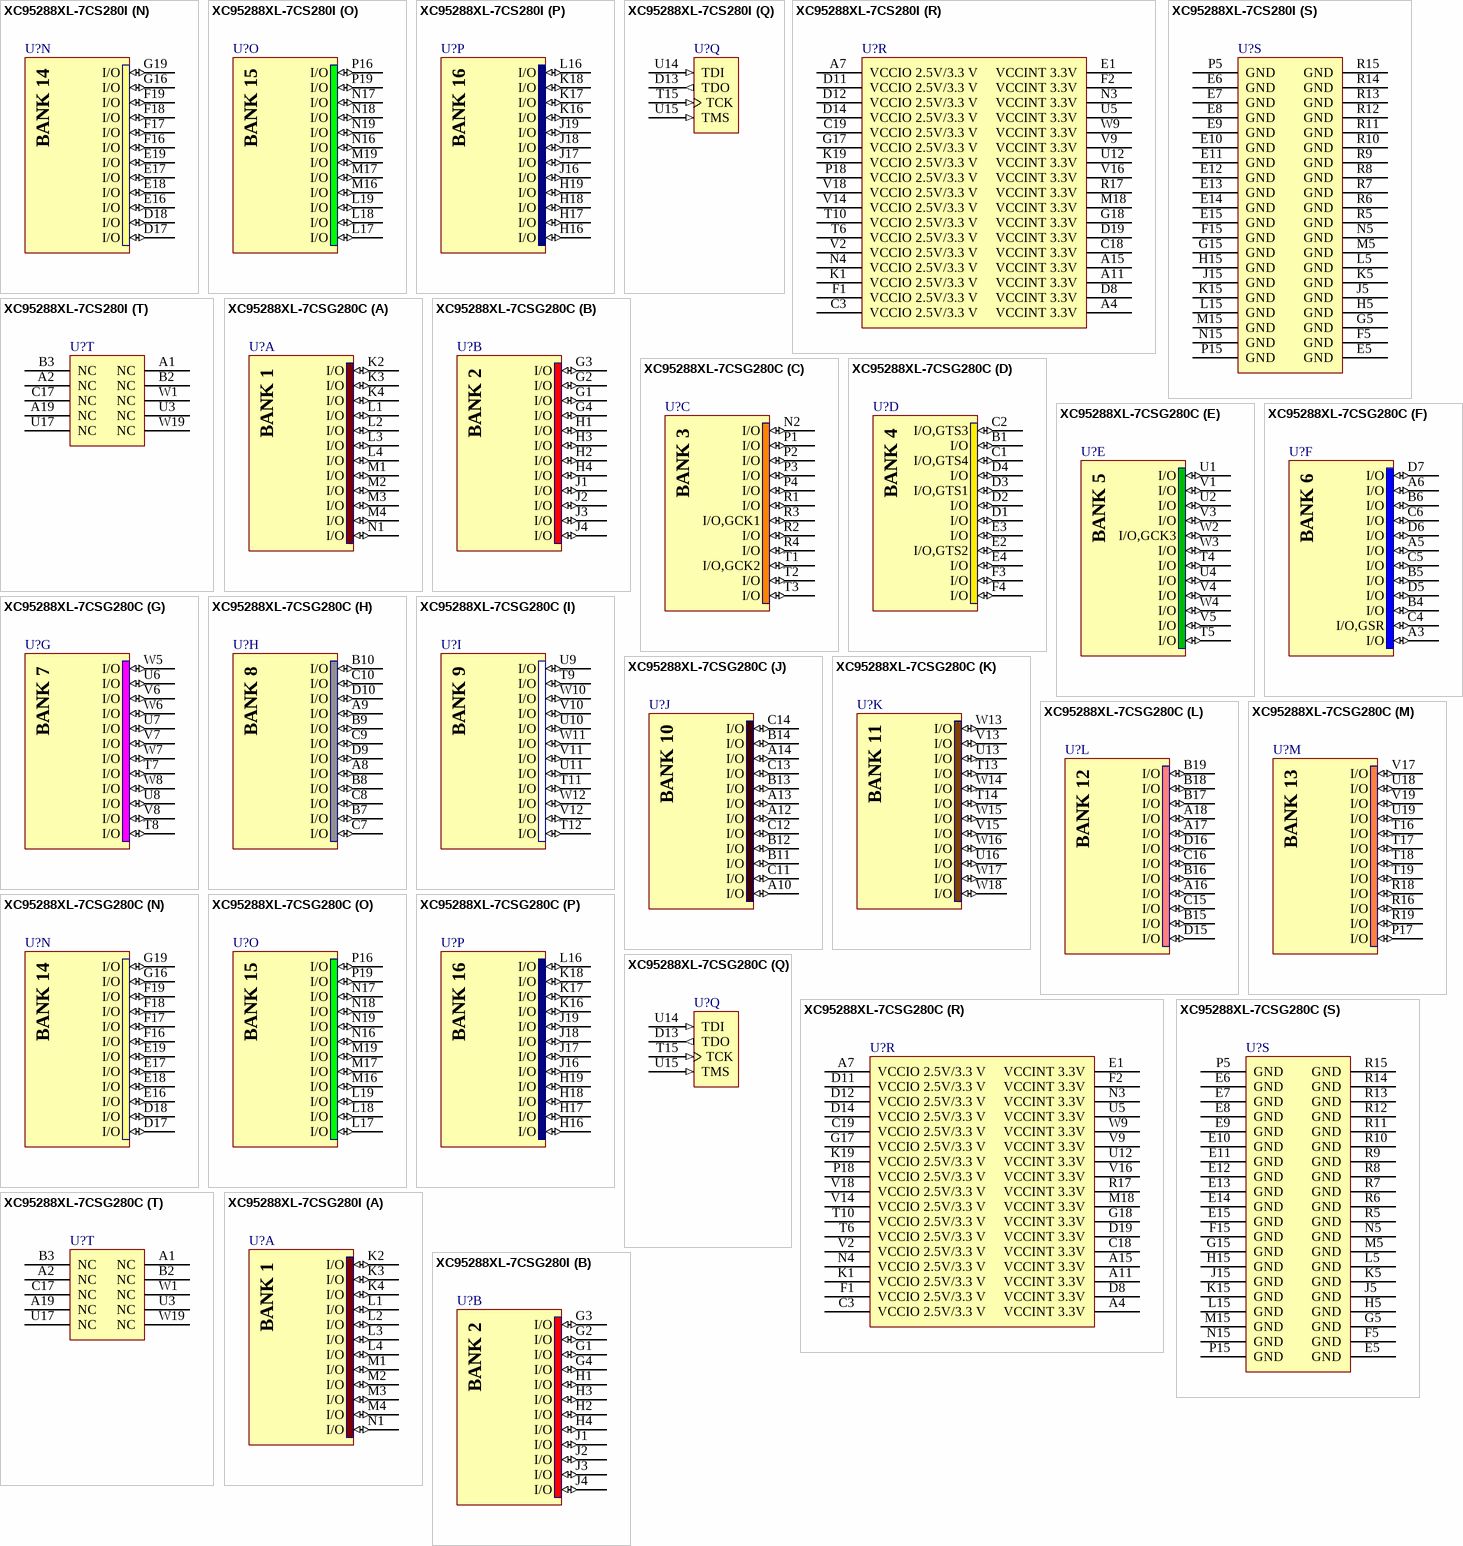
[diagram p39: symbols XC95288XL-7CS280I to XC95288XL-7CSG280I]